# Altium integrated library TI Microcontroller 32-Bit ARM.IntLib: 163 symbols (part 5 of 10)
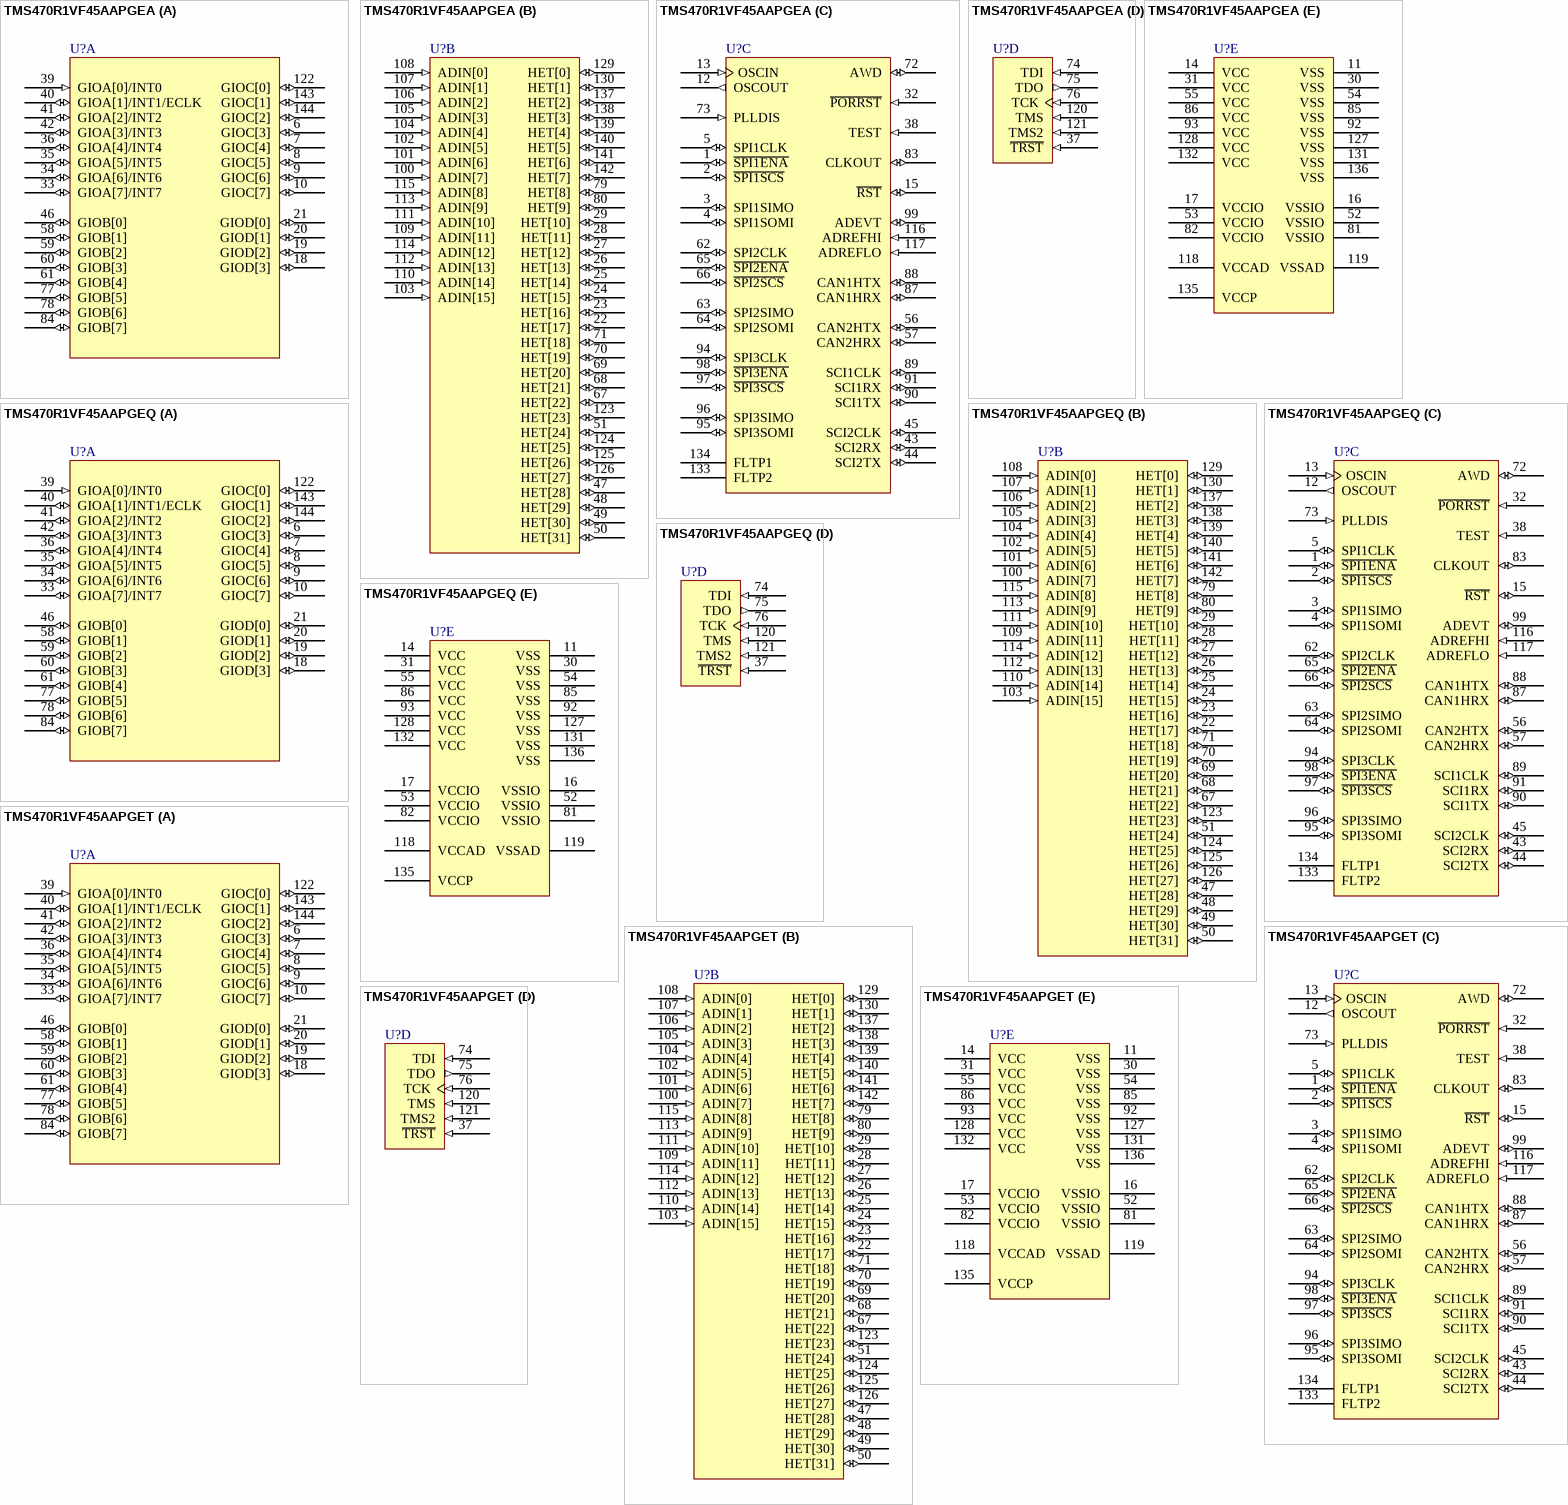
[diagram p56: symbols TMS470R1VF45AAPGEA to TMS470R1VF45AAPGET]

## TMS470R1VF45AAPGEQ
designator U?
ARM7TDMI 16/32-Bit RISC Automotive MCU, 512KB Flash, 32KB RAM, 144-pin LQFP, -40ºC to 125ºC; Published: 30-Mar-2007; DatasheetVersion: Nov-2004; PackageVersion: Dec-1996; PackageReference: PGE144; Publisher: Altium Limited; PackageDescription: 144-Pin Thin Quad Flat Pack 0.5 mm Pitch; ComponentLink1Description: Manufacturer Link; ComponentLink1URL: http://www.ti.com/; ComponentLink2Description: Datasheet; ComponentLink2URL: http://focus.ti.com/lit/ds/symlink/tms470r1vf45aa.pdf
footprint PGE144_N (Thin QFP, 144-Leads, Body 20x20mm, Pitch 0.5mm, IPC Medium Density)
footprint PGE144_L (Thin QFP, 144-Leads, Body 20x20mm, Pitch 0.5mm, IPC High Density)
footprint PGE144_M (Thin QFP, 144-Leads, Body 20x20mm, Pitch 0.5mm, IPC Low Density)
part A pins: 6 GIOC[3] (io), 7 GIOC[4] (io), 8 GIOC[5] (io), 9 GIOC[6] (io), 10 GIOC[7] (io), 18 GIOD[3] (io), 19 GIOD[2] (io), 20 GIOD[1] (io), 21 GIOD[0] (io), 33 GIOA[7]/INT7 (io), 34 GIOA[6]/INT6 (io), 35 GIOA[5]/INT5 (io), 36 GIOA[4]/INT4 (io), 39 GIOA[0]/INT0 (in), 40 GIOA[1]/INT1/ECLK (io), 41 GIOA[2]/INT2 (io), 42 GIOA[3]/INT3 (io), 46 GIOB[0] (io), 58 GIOB[1] (io), 59 GIOB[2] (io), 60 GIOB[3] (io), 61 GIOB[4] (io), 77 GIOB[5] (io), 78 GIOB[6] (io), 84 GIOB[7] (io), 122 GIOC[0] (io), 143 GIOC[1] (io), 144 GIOC[2] (io)
part B pins: 22 HET[17] (io), 23 HET[16] (io), 24 HET[15] (io), 25 HET[14] (io), 26 HET[13] (io), 27 HET[12] (io), 28 HET[11] (io), 29 HET[10] (io), 47 HET[28] (io), 48 HET[29] (io), 49 HET[30] (io), 50 HET[31] (io), 51 HET[24] (io), 67 HET[22] (io), 68 HET[21] (io), 69 HET[20] (io), 70 HET[19] (io), 71 HET[18] (io), 79 HET[8] (io), 80 HET[9] (io), 100 ADIN[7] (in), 101 ADIN[6] (in), 102 ADIN[5] (in), 103 ADIN[15] (in), 104 ADIN[4] (in), 105 ADIN[3] (in), 106 ADIN[2] (in), 107 ADIN[1] (in), 108 ADIN[0] (in), 109 ADIN[11] (in), 110 ADIN[14] (in), 111 ADIN[10] (in), 112 ADIN[13] (in), 113 ADIN[9] (in), 114 ADIN[12] (in), 115 ADIN[8] (in), 123 HET[23] (io), 124 HET[25] (io), 125 HET[26] (io), 126 HET[27] (io), 129 HET[0] (io), 130 HET[1] (io), 137 HET[2] (io), 138 HET[3] (io), 139 HET[4] (io), 140 HET[5] (io), 141 HET[6] (io), 142 HET[7] (io)
part C pins: 1 ~{SPI1ENA} (io), 2 ~{SPI1SCS} (io), 3 SPI1SIMO (io), 4 SPI1SOMI (io), 5 SPI1CLK (io), 12 OSCOUT (out), 13 OSCIN (in), 15 ~{RST} (io), 32 ~{PORRST} (in), 38 TEST (in), 43 SCI2RX (io), 44 SCI2TX (io), 45 SCI2CLK (io), 56 CAN2HTX (io), 57 CAN2HRX (io), 62 SPI2CLK (io), 63 SPI2SIMO (io), 64 SPI2SOMI (io), 65 ~{SPI2ENA} (io), 66 ~{SPI2SCS} (io), 72 AWD (io), 73 PLLDIS (in), 83 CLKOUT (io), 87 CAN1HRX (io), 88 CAN1HTX (io), 89 SCI1CLK (io), 90 SCI1TX (io), 91 SCI1RX (io), 94 SPI3CLK (io), 95 SPI3SOMI (io), 96 SPI3SIMO (io), 97 ~{SPI3SCS} (io), 98 ~{SPI3ENA} (io), 99 ADEVT (io), 116 ADREFHI (in), 117 ADREFLO (in), 133 FLTP2, 134 FLTP1
part D pins: 37 ~{TRST} (in), 74 TDI (in), 75 TDO (out), 76 TCK (in), 120 TMS (in), 121 TMS2 (in)
part E pins: 11 VSS (power), 14 VCC (power), 16 VSSIO (power), 17 VCCIO (power), 30 VSS (power), 31 VCC (power), 52 VSSIO (power), 53 VCCIO (power), 54 VSS (power), 55 VCC (power), 81 VSSIO (power), 82 VCCIO (power), 85 VSS (power), 86 VCC (power), 92 VSS (power), 93 VCC (power), 118 VCCAD (power), 119 VSSAD (power), 127 VSS (power), 128 VCC (power), 131 VSS (power), 132 VCC (power), 135 VCCP (power), 136 VSS (power)

## TMS470R1VF45AAPGET
designator U?
ARM7TDMI 16/32-Bit RISC Automotive MCU, 512KB Flash, 32KB RAM, 144-pin LQFP, -40ºC to 105ºC; Published: 30-Mar-2007; DatasheetVersion: Nov-2004; PackageVersion: Dec-1996; PackageReference: PGE144; Publisher: Altium Limited; PackageDescription: 144-Pin Thin Quad Flat Pack 0.5 mm Pitch; ComponentLink1Description: Manufacturer Link; ComponentLink1URL: http://www.ti.com/; ComponentLink2Description: Datasheet; ComponentLink2URL: http://focus.ti.com/lit/ds/symlink/tms470r1vf45aa.pdf
footprint PGE144_N (Thin QFP, 144-Leads, Body 20x20mm, Pitch 0.5mm, IPC Medium Density)
footprint PGE144_L (Thin QFP, 144-Leads, Body 20x20mm, Pitch 0.5mm, IPC High Density)
footprint PGE144_M (Thin QFP, 144-Leads, Body 20x20mm, Pitch 0.5mm, IPC Low Density)
part A pins: 6 GIOC[3] (io), 7 GIOC[4] (io), 8 GIOC[5] (io), 9 GIOC[6] (io), 10 GIOC[7] (io), 18 GIOD[3] (io), 19 GIOD[2] (io), 20 GIOD[1] (io), 21 GIOD[0] (io), 33 GIOA[7]/INT7 (io), 34 GIOA[6]/INT6 (io), 35 GIOA[5]/INT5 (io), 36 GIOA[4]/INT4 (io), 39 GIOA[0]/INT0 (in), 40 GIOA[1]/INT1/ECLK (io), 41 GIOA[2]/INT2 (io), 42 GIOA[3]/INT3 (io), 46 GIOB[0] (io), 58 GIOB[1] (io), 59 GIOB[2] (io), 60 GIOB[3] (io), 61 GIOB[4] (io), 77 GIOB[5] (io), 78 GIOB[6] (io), 84 GIOB[7] (io), 122 GIOC[0] (io), 143 GIOC[1] (io), 144 GIOC[2] (io)
part B pins: 22 HET[17] (io), 23 HET[16] (io), 24 HET[15] (io), 25 HET[14] (io), 26 HET[13] (io), 27 HET[12] (io), 28 HET[11] (io), 29 HET[10] (io), 47 HET[28] (io), 48 HET[29] (io), 49 HET[30] (io), 50 HET[31] (io), 51 HET[24] (io), 67 HET[22] (io), 68 HET[21] (io), 69 HET[20] (io), 70 HET[19] (io), 71 HET[18] (io), 79 HET[8] (io), 80 HET[9] (io), 100 ADIN[7] (in), 101 ADIN[6] (in), 102 ADIN[5] (in), 103 ADIN[15] (in), 104 ADIN[4] (in), 105 ADIN[3] (in), 106 ADIN[2] (in), 107 ADIN[1] (in), 108 ADIN[0] (in), 109 ADIN[11] (in), 110 ADIN[14] (in), 111 ADIN[10] (in), 112 ADIN[13] (in), 113 ADIN[9] (in), 114 ADIN[12] (in), 115 ADIN[8] (in), 123 HET[23] (io), 124 HET[25] (io), 125 HET[26] (io), 126 HET[27] (io), 129 HET[0] (io), 130 HET[1] (io), 137 HET[2] (io), 138 HET[3] (io), 139 HET[4] (io), 140 HET[5] (io), 141 HET[6] (io), 142 HET[7] (io)
part C pins: 1 ~{SPI1ENA} (io), 2 ~{SPI1SCS} (io), 3 SPI1SIMO (io), 4 SPI1SOMI (io), 5 SPI1CLK (io), 12 OSCOUT (out), 13 OSCIN (in), 15 ~{RST} (io), 32 ~{PORRST} (in), 38 TEST (in), 43 SCI2RX (io), 44 SCI2TX (io), 45 SCI2CLK (io), 56 CAN2HTX (io), 57 CAN2HRX (io), 62 SPI2CLK (io), 63 SPI2SIMO (io), 64 SPI2SOMI (io), 65 ~{SPI2ENA} (io), 66 ~{SPI2SCS} (io), 72 AWD (io), 73 PLLDIS (in), 83 CLKOUT (io), 87 CAN1HRX (io), 88 CAN1HTX (io), 89 SCI1CLK (io), 90 SCI1TX (io), 91 SCI1RX (io), 94 SPI3CLK (io), 95 SPI3SOMI (io), 96 SPI3SIMO (io), 97 ~{SPI3SCS} (io), 98 ~{SPI3ENA} (io), 99 ADEVT (io), 116 ADREFHI (in), 117 ADREFLO (in), 133 FLTP2, 134 FLTP1
part D pins: 37 ~{TRST} (in), 74 TDI (in), 75 TDO (out), 76 TCK (in), 120 TMS (in), 121 TMS2 (in)
part E pins: 11 VSS (power), 14 VCC (power), 16 VSSIO (power), 17 VCCIO (power), 30 VSS (power), 31 VCC (power), 52 VSSIO (power), 53 VCCIO (power), 54 VSS (power), 55 VCC (power), 81 VSSIO (power), 82 VCCIO (power), 85 VSS (power), 86 VCC (power), 92 VSS (power), 93 VCC (power), 118 VCCAD (power), 119 VSSAD (power), 127 VSS (power), 128 VCC (power), 131 VSS (power), 132 VCC (power), 135 VCCP (power), 136 VSS (power)

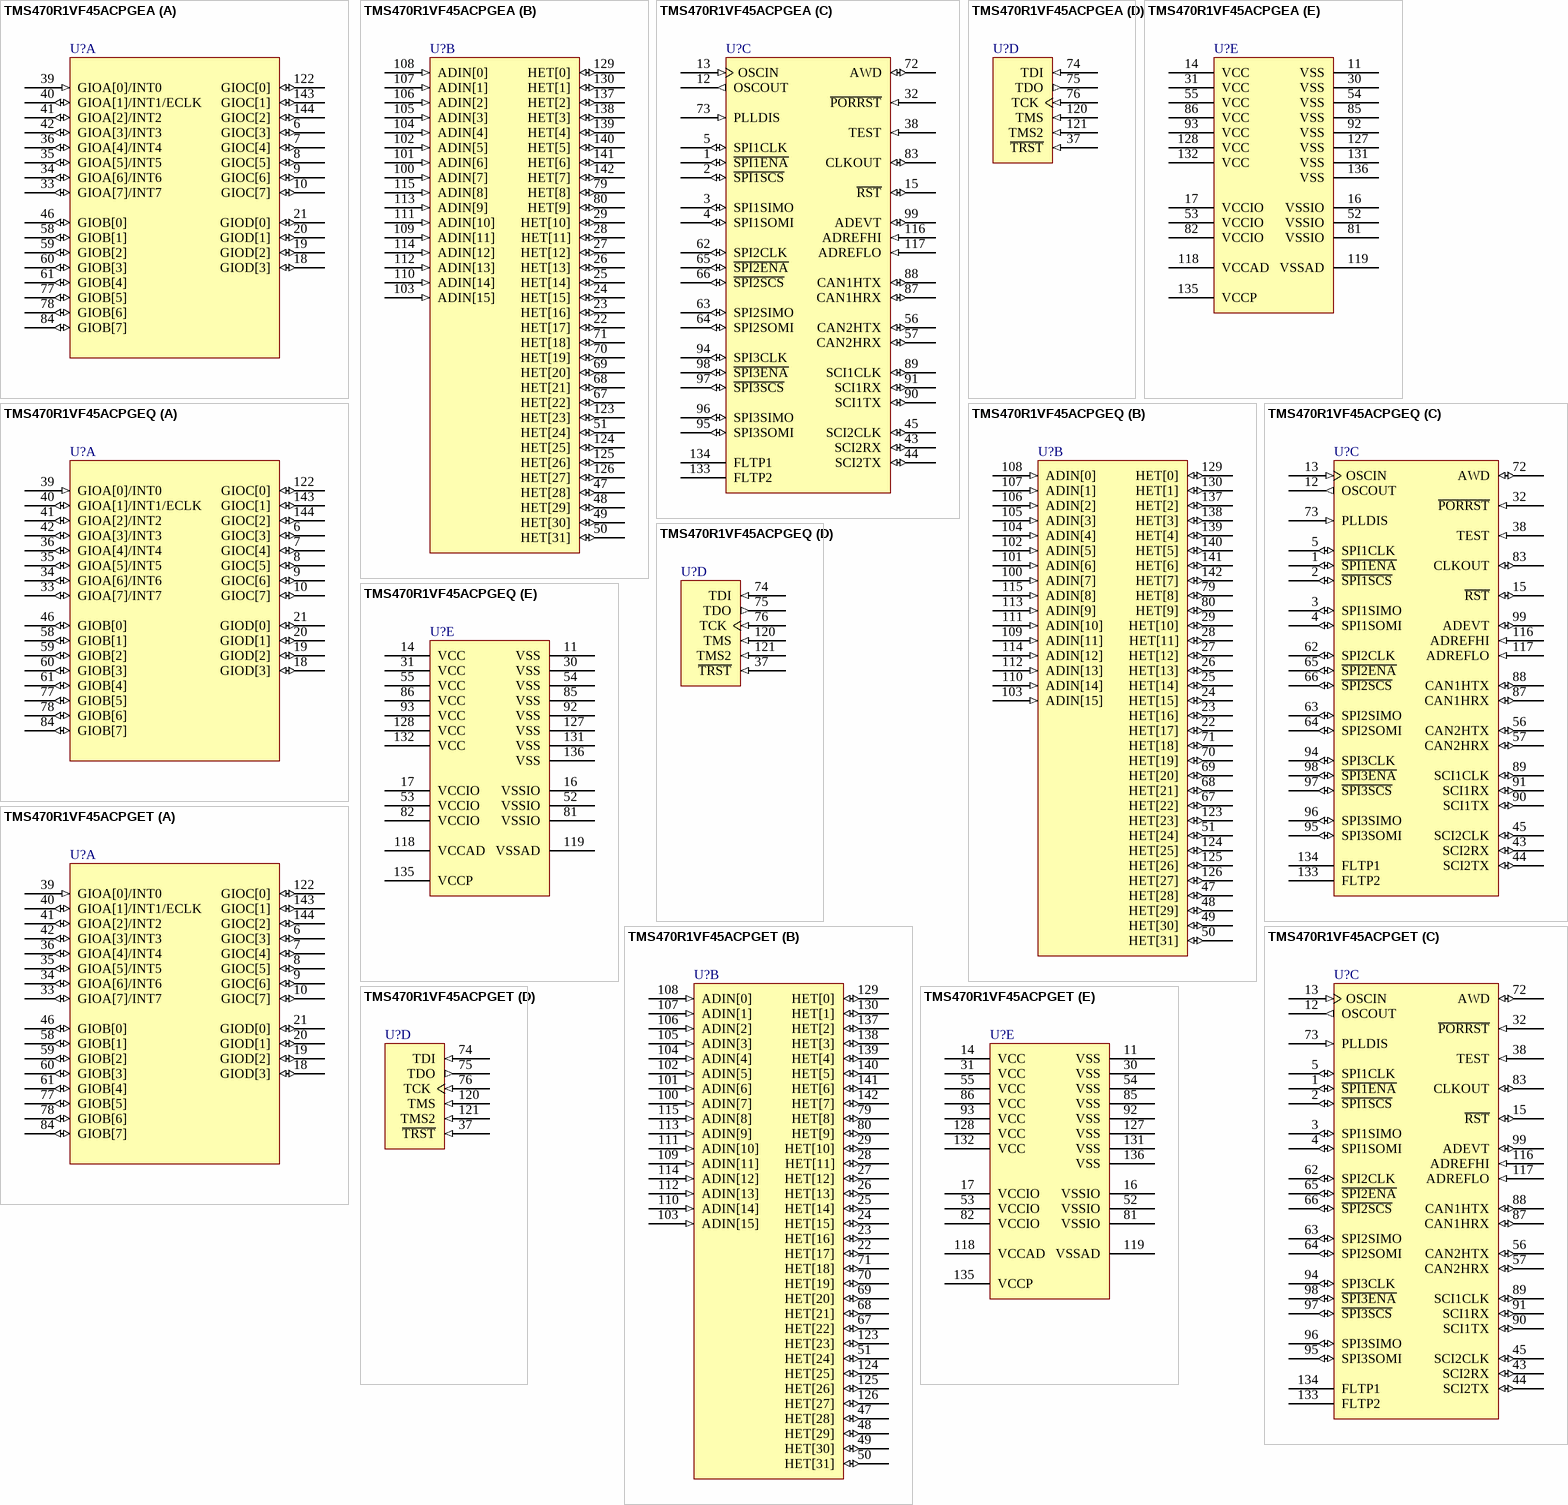
[diagram p22: symbols TMS470R1VF45ACPGEA to TMS470R1VF45ACPGET]

## TMS470R1VF45ACPGEA
designator U?
ARM7TDMI 16/32-Bit RISC Automotive MCU, 512KB Flash, 32KB RAM, 144-pin LQFP, -40ºC to 85ºC; Published: 30-Mar-2007; DatasheetVersion: Nov-2004; PackageVersion: Dec-1996; PackageReference: PGE144; Publisher: Altium Limited; PackageDescription: 144-Pin Thin Quad Flat Pack 0.5 mm Pitch; ComponentLink1Description: Manufacturer Link; ComponentLink1URL: http://www.ti.com/; ComponentLink2Description: Datasheet; ComponentLink2URL: http://focus.ti.com/lit/ds/symlink/tms470r1vf45aa.pdf
footprint PGE144_N (Thin QFP, 144-Leads, Body 20x20mm, Pitch 0.5mm, IPC Medium Density)
footprint PGE144_L (Thin QFP, 144-Leads, Body 20x20mm, Pitch 0.5mm, IPC High Density)
footprint PGE144_M (Thin QFP, 144-Leads, Body 20x20mm, Pitch 0.5mm, IPC Low Density)
part A pins: 6 GIOC[3] (io), 7 GIOC[4] (io), 8 GIOC[5] (io), 9 GIOC[6] (io), 10 GIOC[7] (io), 18 GIOD[3] (io), 19 GIOD[2] (io), 20 GIOD[1] (io), 21 GIOD[0] (io), 33 GIOA[7]/INT7 (io), 34 GIOA[6]/INT6 (io), 35 GIOA[5]/INT5 (io), 36 GIOA[4]/INT4 (io), 39 GIOA[0]/INT0 (in), 40 GIOA[1]/INT1/ECLK (io), 41 GIOA[2]/INT2 (io), 42 GIOA[3]/INT3 (io), 46 GIOB[0] (io), 58 GIOB[1] (io), 59 GIOB[2] (io), 60 GIOB[3] (io), 61 GIOB[4] (io), 77 GIOB[5] (io), 78 GIOB[6] (io), 84 GIOB[7] (io), 122 GIOC[0] (io), 143 GIOC[1] (io), 144 GIOC[2] (io)
part B pins: 22 HET[17] (io), 23 HET[16] (io), 24 HET[15] (io), 25 HET[14] (io), 26 HET[13] (io), 27 HET[12] (io), 28 HET[11] (io), 29 HET[10] (io), 47 HET[28] (io), 48 HET[29] (io), 49 HET[30] (io), 50 HET[31] (io), 51 HET[24] (io), 67 HET[22] (io), 68 HET[21] (io), 69 HET[20] (io), 70 HET[19] (io), 71 HET[18] (io), 79 HET[8] (io), 80 HET[9] (io), 100 ADIN[7] (in), 101 ADIN[6] (in), 102 ADIN[5] (in), 103 ADIN[15] (in), 104 ADIN[4] (in), 105 ADIN[3] (in), 106 ADIN[2] (in), 107 ADIN[1] (in), 108 ADIN[0] (in), 109 ADIN[11] (in), 110 ADIN[14] (in), 111 ADIN[10] (in), 112 ADIN[13] (in), 113 ADIN[9] (in), 114 ADIN[12] (in), 115 ADIN[8] (in), 123 HET[23] (io), 124 HET[25] (io), 125 HET[26] (io), 126 HET[27] (io), 129 HET[0] (io), 130 HET[1] (io), 137 HET[2] (io), 138 HET[3] (io), 139 HET[4] (io), 140 HET[5] (io), 141 HET[6] (io), 142 HET[7] (io)
part C pins: 1 ~{SPI1ENA} (io), 2 ~{SPI1SCS} (io), 3 SPI1SIMO (io), 4 SPI1SOMI (io), 5 SPI1CLK (io), 12 OSCOUT (out), 13 OSCIN (in), 15 ~{RST} (io), 32 ~{PORRST} (in), 38 TEST (in), 43 SCI2RX (io), 44 SCI2TX (io), 45 SCI2CLK (io), 56 CAN2HTX (io), 57 CAN2HRX (io), 62 SPI2CLK (io), 63 SPI2SIMO (io), 64 SPI2SOMI (io), 65 ~{SPI2ENA} (io), 66 ~{SPI2SCS} (io), 72 AWD (io), 73 PLLDIS (in), 83 CLKOUT (io), 87 CAN1HRX (io), 88 CAN1HTX (io), 89 SCI1CLK (io), 90 SCI1TX (io), 91 SCI1RX (io), 94 SPI3CLK (io), 95 SPI3SOMI (io), 96 SPI3SIMO (io), 97 ~{SPI3SCS} (io), 98 ~{SPI3ENA} (io), 99 ADEVT (io), 116 ADREFHI (in), 117 ADREFLO (in), 133 FLTP2, 134 FLTP1
part D pins: 37 ~{TRST} (in), 74 TDI (in), 75 TDO (out), 76 TCK (in), 120 TMS (in), 121 TMS2 (in)
part E pins: 11 VSS (power), 14 VCC (power), 16 VSSIO (power), 17 VCCIO (power), 30 VSS (power), 31 VCC (power), 52 VSSIO (power), 53 VCCIO (power), 54 VSS (power), 55 VCC (power), 81 VSSIO (power), 82 VCCIO (power), 85 VSS (power), 86 VCC (power), 92 VSS (power), 93 VCC (power), 118 VCCAD (power), 119 VSSAD (power), 127 VSS (power), 128 VCC (power), 131 VSS (power), 132 VCC (power), 135 VCCP (power), 136 VSS (power)

## TMS470R1VF45ACPGEQ
designator U?
ARM7TDMI 16/32-Bit RISC Automotive MCU, 512KB Flash, 32KB RAM, 144-pin LQFP, -40ºC to 125ºC; Published: 30-Mar-2007; DatasheetVersion: Nov-2004; PackageVersion: Dec-1996; PackageReference: PGE144; Publisher: Altium Limited; PackageDescription: 144-Pin Thin Quad Flat Pack 0.5 mm Pitch; ComponentLink1Description: Manufacturer Link; ComponentLink1URL: http://www.ti.com/; ComponentLink2Description: Datasheet; ComponentLink2URL: http://focus.ti.com/lit/ds/symlink/tms470r1vf45aa.pdf
footprint PGE144_N (Thin QFP, 144-Leads, Body 20x20mm, Pitch 0.5mm, IPC Medium Density)
footprint PGE144_L (Thin QFP, 144-Leads, Body 20x20mm, Pitch 0.5mm, IPC High Density)
footprint PGE144_M (Thin QFP, 144-Leads, Body 20x20mm, Pitch 0.5mm, IPC Low Density)
part A pins: 6 GIOC[3] (io), 7 GIOC[4] (io), 8 GIOC[5] (io), 9 GIOC[6] (io), 10 GIOC[7] (io), 18 GIOD[3] (io), 19 GIOD[2] (io), 20 GIOD[1] (io), 21 GIOD[0] (io), 33 GIOA[7]/INT7 (io), 34 GIOA[6]/INT6 (io), 35 GIOA[5]/INT5 (io), 36 GIOA[4]/INT4 (io), 39 GIOA[0]/INT0 (in), 40 GIOA[1]/INT1/ECLK (io), 41 GIOA[2]/INT2 (io), 42 GIOA[3]/INT3 (io), 46 GIOB[0] (io), 58 GIOB[1] (io), 59 GIOB[2] (io), 60 GIOB[3] (io), 61 GIOB[4] (io), 77 GIOB[5] (io), 78 GIOB[6] (io), 84 GIOB[7] (io), 122 GIOC[0] (io), 143 GIOC[1] (io), 144 GIOC[2] (io)
part B pins: 22 HET[17] (io), 23 HET[16] (io), 24 HET[15] (io), 25 HET[14] (io), 26 HET[13] (io), 27 HET[12] (io), 28 HET[11] (io), 29 HET[10] (io), 47 HET[28] (io), 48 HET[29] (io), 49 HET[30] (io), 50 HET[31] (io), 51 HET[24] (io), 67 HET[22] (io), 68 HET[21] (io), 69 HET[20] (io), 70 HET[19] (io), 71 HET[18] (io), 79 HET[8] (io), 80 HET[9] (io), 100 ADIN[7] (in), 101 ADIN[6] (in), 102 ADIN[5] (in), 103 ADIN[15] (in), 104 ADIN[4] (in), 105 ADIN[3] (in), 106 ADIN[2] (in), 107 ADIN[1] (in), 108 ADIN[0] (in), 109 ADIN[11] (in), 110 ADIN[14] (in), 111 ADIN[10] (in), 112 ADIN[13] (in), 113 ADIN[9] (in), 114 ADIN[12] (in), 115 ADIN[8] (in), 123 HET[23] (io), 124 HET[25] (io), 125 HET[26] (io), 126 HET[27] (io), 129 HET[0] (io), 130 HET[1] (io), 137 HET[2] (io), 138 HET[3] (io), 139 HET[4] (io), 140 HET[5] (io), 141 HET[6] (io), 142 HET[7] (io)
part C pins: 1 ~{SPI1ENA} (io), 2 ~{SPI1SCS} (io), 3 SPI1SIMO (io), 4 SPI1SOMI (io), 5 SPI1CLK (io), 12 OSCOUT (out), 13 OSCIN (in), 15 ~{RST} (io), 32 ~{PORRST} (in), 38 TEST (in), 43 SCI2RX (io), 44 SCI2TX (io), 45 SCI2CLK (io), 56 CAN2HTX (io), 57 CAN2HRX (io), 62 SPI2CLK (io), 63 SPI2SIMO (io), 64 SPI2SOMI (io), 65 ~{SPI2ENA} (io), 66 ~{SPI2SCS} (io), 72 AWD (io), 73 PLLDIS (in), 83 CLKOUT (io), 87 CAN1HRX (io), 88 CAN1HTX (io), 89 SCI1CLK (io), 90 SCI1TX (io), 91 SCI1RX (io), 94 SPI3CLK (io), 95 SPI3SOMI (io), 96 SPI3SIMO (io), 97 ~{SPI3SCS} (io), 98 ~{SPI3ENA} (io), 99 ADEVT (io), 116 ADREFHI (in), 117 ADREFLO (in), 133 FLTP2, 134 FLTP1
part D pins: 37 ~{TRST} (in), 74 TDI (in), 75 TDO (out), 76 TCK (in), 120 TMS (in), 121 TMS2 (in)
part E pins: 11 VSS (power), 14 VCC (power), 16 VSSIO (power), 17 VCCIO (power), 30 VSS (power), 31 VCC (power), 52 VSSIO (power), 53 VCCIO (power), 54 VSS (power), 55 VCC (power), 81 VSSIO (power), 82 VCCIO (power), 85 VSS (power), 86 VCC (power), 92 VSS (power), 93 VCC (power), 118 VCCAD (power), 119 VSSAD (power), 127 VSS (power), 128 VCC (power), 131 VSS (power), 132 VCC (power), 135 VCCP (power), 136 VSS (power)

## TMS470R1VF45ACPGET
designator U?
ARM7TDMI 16/32-Bit RISC Automotive MCU, 512KB Flash, 32KB RAM, 144-pin LQFP, -40ºC to 105ºC; Published: 30-Mar-2007; DatasheetVersion: Nov-2004; PackageVersion: Dec-1996; PackageReference: PGE144; Publisher: Altium Limited; PackageDescription: 144-Pin Thin Quad Flat Pack 0.5 mm Pitch; ComponentLink1Description: Manufacturer Link; ComponentLink1URL: http://www.ti.com/; ComponentLink2Description: Datasheet; ComponentLink2URL: http://focus.ti.com/lit/ds/symlink/tms470r1vf45aa.pdf
footprint PGE144_N (Thin QFP, 144-Leads, Body 20x20mm, Pitch 0.5mm, IPC Medium Density)
footprint PGE144_L (Thin QFP, 144-Leads, Body 20x20mm, Pitch 0.5mm, IPC High Density)
footprint PGE144_M (Thin QFP, 144-Leads, Body 20x20mm, Pitch 0.5mm, IPC Low Density)
part A pins: 6 GIOC[3] (io), 7 GIOC[4] (io), 8 GIOC[5] (io), 9 GIOC[6] (io), 10 GIOC[7] (io), 18 GIOD[3] (io), 19 GIOD[2] (io), 20 GIOD[1] (io), 21 GIOD[0] (io), 33 GIOA[7]/INT7 (io), 34 GIOA[6]/INT6 (io), 35 GIOA[5]/INT5 (io), 36 GIOA[4]/INT4 (io), 39 GIOA[0]/INT0 (in), 40 GIOA[1]/INT1/ECLK (io), 41 GIOA[2]/INT2 (io), 42 GIOA[3]/INT3 (io), 46 GIOB[0] (io), 58 GIOB[1] (io), 59 GIOB[2] (io), 60 GIOB[3] (io), 61 GIOB[4] (io), 77 GIOB[5] (io), 78 GIOB[6] (io), 84 GIOB[7] (io), 122 GIOC[0] (io), 143 GIOC[1] (io), 144 GIOC[2] (io)
part B pins: 22 HET[17] (io), 23 HET[16] (io), 24 HET[15] (io), 25 HET[14] (io), 26 HET[13] (io), 27 HET[12] (io), 28 HET[11] (io), 29 HET[10] (io), 47 HET[28] (io), 48 HET[29] (io), 49 HET[30] (io), 50 HET[31] (io), 51 HET[24] (io), 67 HET[22] (io), 68 HET[21] (io), 69 HET[20] (io), 70 HET[19] (io), 71 HET[18] (io), 79 HET[8] (io), 80 HET[9] (io), 100 ADIN[7] (in), 101 ADIN[6] (in), 102 ADIN[5] (in), 103 ADIN[15] (in), 104 ADIN[4] (in), 105 ADIN[3] (in), 106 ADIN[2] (in), 107 ADIN[1] (in), 108 ADIN[0] (in), 109 ADIN[11] (in), 110 ADIN[14] (in), 111 ADIN[10] (in), 112 ADIN[13] (in), 113 ADIN[9] (in), 114 ADIN[12] (in), 115 ADIN[8] (in), 123 HET[23] (io), 124 HET[25] (io), 125 HET[26] (io), 126 HET[27] (io), 129 HET[0] (io), 130 HET[1] (io), 137 HET[2] (io), 138 HET[3] (io), 139 HET[4] (io), 140 HET[5] (io), 141 HET[6] (io), 142 HET[7] (io)
part C pins: 1 ~{SPI1ENA} (io), 2 ~{SPI1SCS} (io), 3 SPI1SIMO (io), 4 SPI1SOMI (io), 5 SPI1CLK (io), 12 OSCOUT (out), 13 OSCIN (in), 15 ~{RST} (io), 32 ~{PORRST} (in), 38 TEST (in), 43 SCI2RX (io), 44 SCI2TX (io), 45 SCI2CLK (io), 56 CAN2HTX (io), 57 CAN2HRX (io), 62 SPI2CLK (io), 63 SPI2SIMO (io), 64 SPI2SOMI (io), 65 ~{SPI2ENA} (io), 66 ~{SPI2SCS} (io), 72 AWD (io), 73 PLLDIS (in), 83 CLKOUT (io), 87 CAN1HRX (io), 88 CAN1HTX (io), 89 SCI1CLK (io), 90 SCI1TX (io), 91 SCI1RX (io), 94 SPI3CLK (io), 95 SPI3SOMI (io), 96 SPI3SIMO (io), 97 ~{SPI3SCS} (io), 98 ~{SPI3ENA} (io), 99 ADEVT (io), 116 ADREFHI (in), 117 ADREFLO (in), 133 FLTP2, 134 FLTP1
part D pins: 37 ~{TRST} (in), 74 TDI (in), 75 TDO (out), 76 TCK (in), 120 TMS (in), 121 TMS2 (in)
part E pins: 11 VSS (power), 14 VCC (power), 16 VSSIO (power), 17 VCCIO (power), 30 VSS (power), 31 VCC (power), 52 VSSIO (power), 53 VCCIO (power), 54 VSS (power), 55 VCC (power), 81 VSSIO (power), 82 VCCIO (power), 85 VSS (power), 86 VCC (power), 92 VSS (power), 93 VCC (power), 118 VCCAD (power), 119 VSSAD (power), 127 VSS (power), 128 VCC (power), 131 VSS (power), 132 VCC (power), 135 VCCP (power), 136 VSS (power)

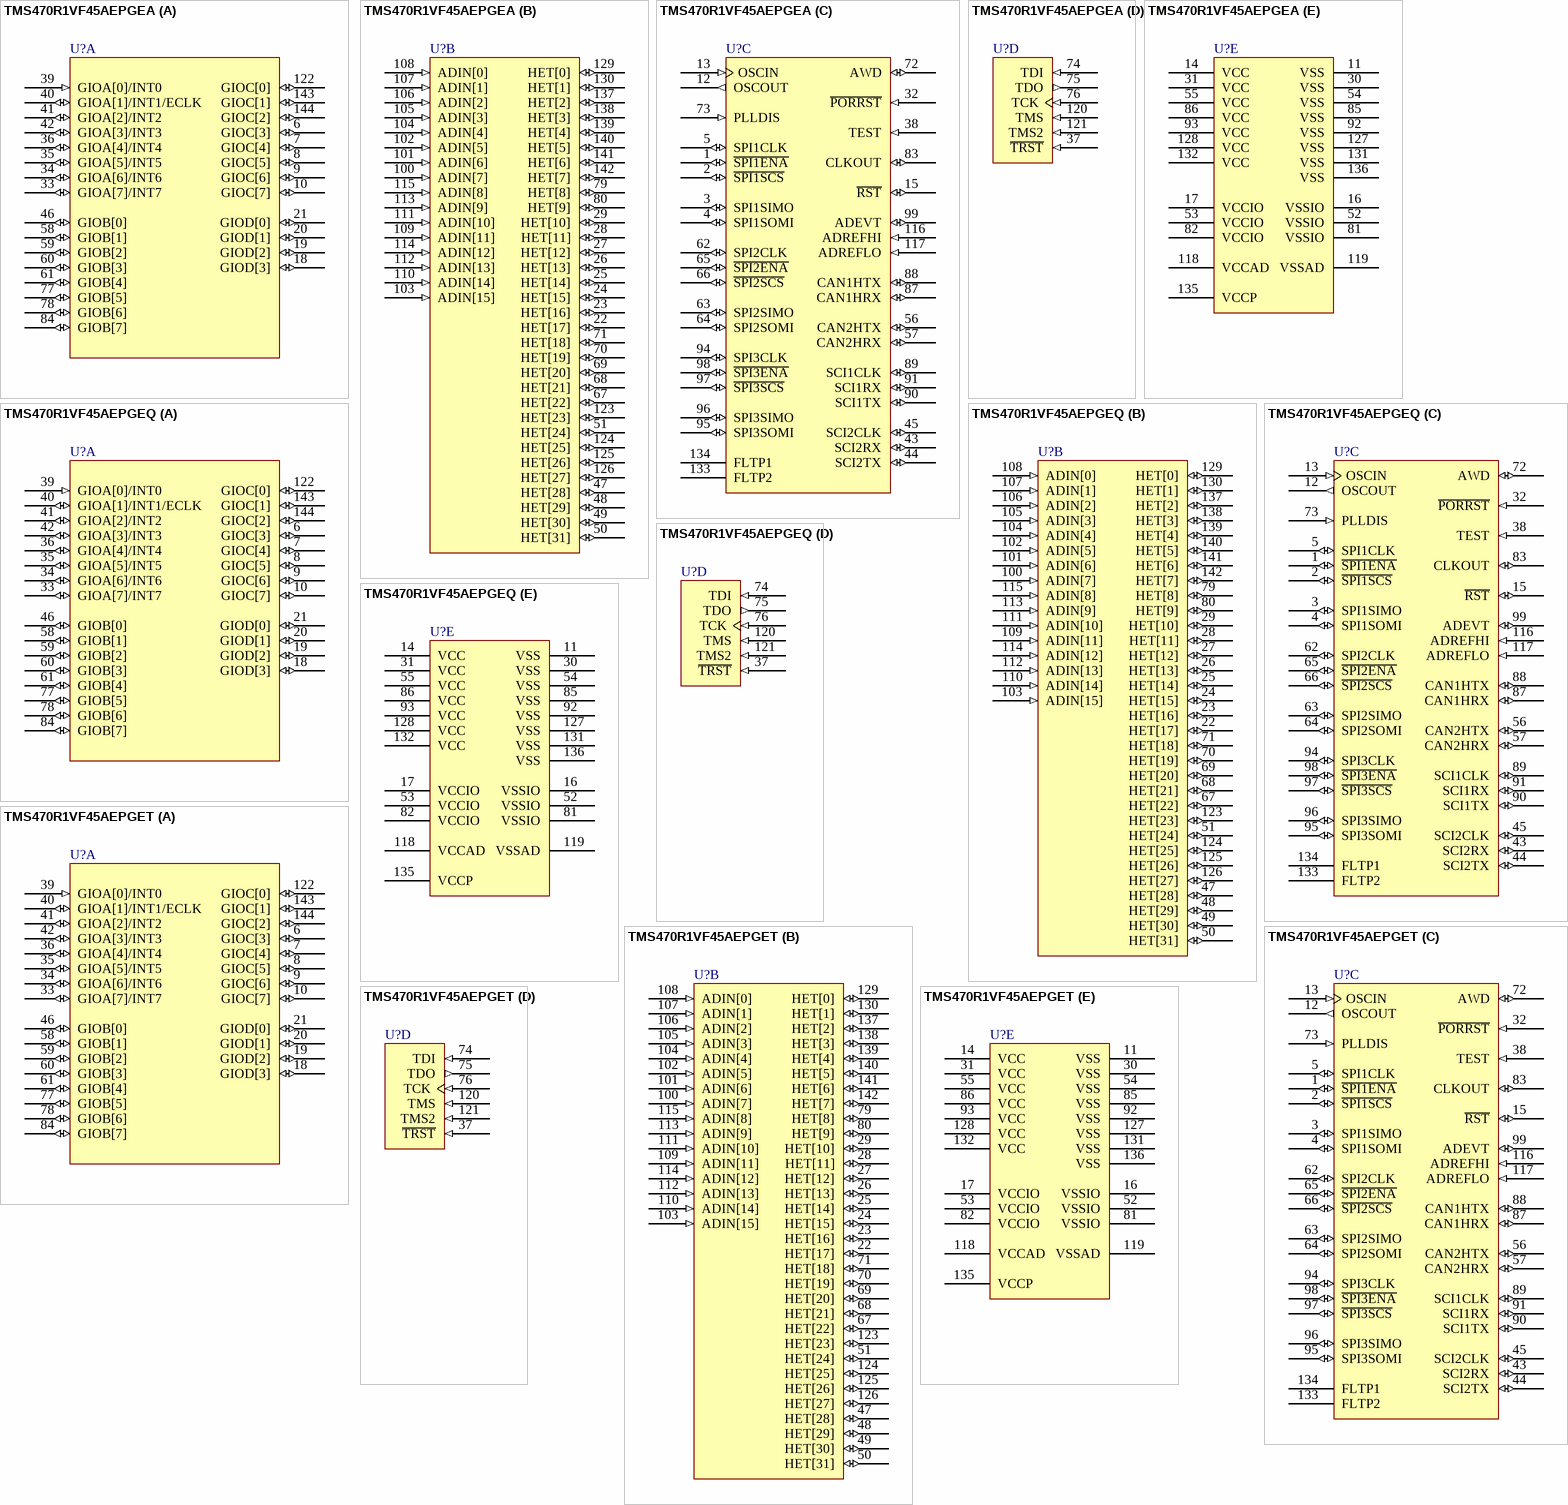
[diagram p23: symbols TMS470R1VF45AEPGEA to TMS470R1VF45AEPGET]

## TMS470R1VF45AEPGEA
designator U?
ARM7TDMI 16/32-Bit RISC Automotive MCU, 512KB Flash, 32KB RAM, 144-pin LQFP, -40ºC to 85ºC; Published: 30-Mar-2007; DatasheetVersion: Nov-2004; PackageVersion: Dec-1996; PackageReference: PGE144; Publisher: Altium Limited; PackageDescription: 144-Pin Thin Quad Flat Pack 0.5 mm Pitch; ComponentLink1Description: Manufacturer Link; ComponentLink1URL: http://www.ti.com/; ComponentLink2Description: Datasheet; ComponentLink2URL: http://focus.ti.com/lit/ds/symlink/tms470r1vf45aa.pdf
footprint PGE144_N (Thin QFP, 144-Leads, Body 20x20mm, Pitch 0.5mm, IPC Medium Density)
footprint PGE144_L (Thin QFP, 144-Leads, Body 20x20mm, Pitch 0.5mm, IPC High Density)
footprint PGE144_M (Thin QFP, 144-Leads, Body 20x20mm, Pitch 0.5mm, IPC Low Density)
part A pins: 6 GIOC[3] (io), 7 GIOC[4] (io), 8 GIOC[5] (io), 9 GIOC[6] (io), 10 GIOC[7] (io), 18 GIOD[3] (io), 19 GIOD[2] (io), 20 GIOD[1] (io), 21 GIOD[0] (io), 33 GIOA[7]/INT7 (io), 34 GIOA[6]/INT6 (io), 35 GIOA[5]/INT5 (io), 36 GIOA[4]/INT4 (io), 39 GIOA[0]/INT0 (in), 40 GIOA[1]/INT1/ECLK (io), 41 GIOA[2]/INT2 (io), 42 GIOA[3]/INT3 (io), 46 GIOB[0] (io), 58 GIOB[1] (io), 59 GIOB[2] (io), 60 GIOB[3] (io), 61 GIOB[4] (io), 77 GIOB[5] (io), 78 GIOB[6] (io), 84 GIOB[7] (io), 122 GIOC[0] (io), 143 GIOC[1] (io), 144 GIOC[2] (io)
part B pins: 22 HET[17] (io), 23 HET[16] (io), 24 HET[15] (io), 25 HET[14] (io), 26 HET[13] (io), 27 HET[12] (io), 28 HET[11] (io), 29 HET[10] (io), 47 HET[28] (io), 48 HET[29] (io), 49 HET[30] (io), 50 HET[31] (io), 51 HET[24] (io), 67 HET[22] (io), 68 HET[21] (io), 69 HET[20] (io), 70 HET[19] (io), 71 HET[18] (io), 79 HET[8] (io), 80 HET[9] (io), 100 ADIN[7] (in), 101 ADIN[6] (in), 102 ADIN[5] (in), 103 ADIN[15] (in), 104 ADIN[4] (in), 105 ADIN[3] (in), 106 ADIN[2] (in), 107 ADIN[1] (in), 108 ADIN[0] (in), 109 ADIN[11] (in), 110 ADIN[14] (in), 111 ADIN[10] (in), 112 ADIN[13] (in), 113 ADIN[9] (in), 114 ADIN[12] (in), 115 ADIN[8] (in), 123 HET[23] (io), 124 HET[25] (io), 125 HET[26] (io), 126 HET[27] (io), 129 HET[0] (io), 130 HET[1] (io), 137 HET[2] (io), 138 HET[3] (io), 139 HET[4] (io), 140 HET[5] (io), 141 HET[6] (io), 142 HET[7] (io)
part C pins: 1 ~{SPI1ENA} (io), 2 ~{SPI1SCS} (io), 3 SPI1SIMO (io), 4 SPI1SOMI (io), 5 SPI1CLK (io), 12 OSCOUT (out), 13 OSCIN (in), 15 ~{RST} (io), 32 ~{PORRST} (in), 38 TEST (in), 43 SCI2RX (io), 44 SCI2TX (io), 45 SCI2CLK (io), 56 CAN2HTX (io), 57 CAN2HRX (io), 62 SPI2CLK (io), 63 SPI2SIMO (io), 64 SPI2SOMI (io), 65 ~{SPI2ENA} (io), 66 ~{SPI2SCS} (io), 72 AWD (io), 73 PLLDIS (in), 83 CLKOUT (io), 87 CAN1HRX (io), 88 CAN1HTX (io), 89 SCI1CLK (io), 90 SCI1TX (io), 91 SCI1RX (io), 94 SPI3CLK (io), 95 SPI3SOMI (io), 96 SPI3SIMO (io), 97 ~{SPI3SCS} (io), 98 ~{SPI3ENA} (io), 99 ADEVT (io), 116 ADREFHI (in), 117 ADREFLO (in), 133 FLTP2, 134 FLTP1
part D pins: 37 ~{TRST} (in), 74 TDI (in), 75 TDO (out), 76 TCK (in), 120 TMS (in), 121 TMS2 (in)
part E pins: 11 VSS (power), 14 VCC (power), 16 VSSIO (power), 17 VCCIO (power), 30 VSS (power), 31 VCC (power), 52 VSSIO (power), 53 VCCIO (power), 54 VSS (power), 55 VCC (power), 81 VSSIO (power), 82 VCCIO (power), 85 VSS (power), 86 VCC (power), 92 VSS (power), 93 VCC (power), 118 VCCAD (power), 119 VSSAD (power), 127 VSS (power), 128 VCC (power), 131 VSS (power), 132 VCC (power), 135 VCCP (power), 136 VSS (power)

## TMS470R1VF45AEPGEQ
designator U?
ARM7TDMI 16/32-Bit RISC Automotive MCU, 512KB Flash, 32KB RAM, 144-pin LQFP, -40ºC to 125ºC; Published: 30-Mar-2007; DatasheetVersion: Nov-2004; PackageVersion: Dec-1996; PackageReference: PGE144; Publisher: Altium Limited; PackageDescription: 144-Pin Thin Quad Flat Pack 0.5 mm Pitch; ComponentLink1Description: Manufacturer Link; ComponentLink1URL: http://www.ti.com/; ComponentLink2Description: Datasheet; ComponentLink2URL: http://focus.ti.com/lit/ds/symlink/tms470r1vf45aa.pdf
footprint PGE144_N (Thin QFP, 144-Leads, Body 20x20mm, Pitch 0.5mm, IPC Medium Density)
footprint PGE144_L (Thin QFP, 144-Leads, Body 20x20mm, Pitch 0.5mm, IPC High Density)
footprint PGE144_M (Thin QFP, 144-Leads, Body 20x20mm, Pitch 0.5mm, IPC Low Density)
part A pins: 6 GIOC[3] (io), 7 GIOC[4] (io), 8 GIOC[5] (io), 9 GIOC[6] (io), 10 GIOC[7] (io), 18 GIOD[3] (io), 19 GIOD[2] (io), 20 GIOD[1] (io), 21 GIOD[0] (io), 33 GIOA[7]/INT7 (io), 34 GIOA[6]/INT6 (io), 35 GIOA[5]/INT5 (io), 36 GIOA[4]/INT4 (io), 39 GIOA[0]/INT0 (in), 40 GIOA[1]/INT1/ECLK (io), 41 GIOA[2]/INT2 (io), 42 GIOA[3]/INT3 (io), 46 GIOB[0] (io), 58 GIOB[1] (io), 59 GIOB[2] (io), 60 GIOB[3] (io), 61 GIOB[4] (io), 77 GIOB[5] (io), 78 GIOB[6] (io), 84 GIOB[7] (io), 122 GIOC[0] (io), 143 GIOC[1] (io), 144 GIOC[2] (io)
part B pins: 22 HET[17] (io), 23 HET[16] (io), 24 HET[15] (io), 25 HET[14] (io), 26 HET[13] (io), 27 HET[12] (io), 28 HET[11] (io), 29 HET[10] (io), 47 HET[28] (io), 48 HET[29] (io), 49 HET[30] (io), 50 HET[31] (io), 51 HET[24] (io), 67 HET[22] (io), 68 HET[21] (io), 69 HET[20] (io), 70 HET[19] (io), 71 HET[18] (io), 79 HET[8] (io), 80 HET[9] (io), 100 ADIN[7] (in), 101 ADIN[6] (in), 102 ADIN[5] (in), 103 ADIN[15] (in), 104 ADIN[4] (in), 105 ADIN[3] (in), 106 ADIN[2] (in), 107 ADIN[1] (in), 108 ADIN[0] (in), 109 ADIN[11] (in), 110 ADIN[14] (in), 111 ADIN[10] (in), 112 ADIN[13] (in), 113 ADIN[9] (in), 114 ADIN[12] (in), 115 ADIN[8] (in), 123 HET[23] (io), 124 HET[25] (io), 125 HET[26] (io), 126 HET[27] (io), 129 HET[0] (io), 130 HET[1] (io), 137 HET[2] (io), 138 HET[3] (io), 139 HET[4] (io), 140 HET[5] (io), 141 HET[6] (io), 142 HET[7] (io)
part C pins: 1 ~{SPI1ENA} (io), 2 ~{SPI1SCS} (io), 3 SPI1SIMO (io), 4 SPI1SOMI (io), 5 SPI1CLK (io), 12 OSCOUT (out), 13 OSCIN (in), 15 ~{RST} (io), 32 ~{PORRST} (in), 38 TEST (in), 43 SCI2RX (io), 44 SCI2TX (io), 45 SCI2CLK (io), 56 CAN2HTX (io), 57 CAN2HRX (io), 62 SPI2CLK (io), 63 SPI2SIMO (io), 64 SPI2SOMI (io), 65 ~{SPI2ENA} (io), 66 ~{SPI2SCS} (io), 72 AWD (io), 73 PLLDIS (in), 83 CLKOUT (io), 87 CAN1HRX (io), 88 CAN1HTX (io), 89 SCI1CLK (io), 90 SCI1TX (io), 91 SCI1RX (io), 94 SPI3CLK (io), 95 SPI3SOMI (io), 96 SPI3SIMO (io), 97 ~{SPI3SCS} (io), 98 ~{SPI3ENA} (io), 99 ADEVT (io), 116 ADREFHI (in), 117 ADREFLO (in), 133 FLTP2, 134 FLTP1
part D pins: 37 ~{TRST} (in), 74 TDI (in), 75 TDO (out), 76 TCK (in), 120 TMS (in), 121 TMS2 (in)
part E pins: 11 VSS (power), 14 VCC (power), 16 VSSIO (power), 17 VCCIO (power), 30 VSS (power), 31 VCC (power), 52 VSSIO (power), 53 VCCIO (power), 54 VSS (power), 55 VCC (power), 81 VSSIO (power), 82 VCCIO (power), 85 VSS (power), 86 VCC (power), 92 VSS (power), 93 VCC (power), 118 VCCAD (power), 119 VSSAD (power), 127 VSS (power), 128 VCC (power), 131 VSS (power), 132 VCC (power), 135 VCCP (power), 136 VSS (power)

## TMS470R1VF45AEPGET
designator U?
ARM7TDMI 16/32-Bit RISC Automotive MCU, 512KB Flash, 32KB RAM, 144-pin LQFP, -40ºC to 105ºC; Published: 30-Mar-2007; DatasheetVersion: Nov-2004; PackageVersion: Dec-1996; PackageReference: PGE144; Publisher: Altium Limited; PackageDescription: 144-Pin Thin Quad Flat Pack 0.5 mm Pitch; ComponentLink1Description: Manufacturer Link; ComponentLink1URL: http://www.ti.com/; ComponentLink2Description: Datasheet; ComponentLink2URL: http://focus.ti.com/lit/ds/symlink/tms470r1vf45aa.pdf
footprint PGE144_N (Thin QFP, 144-Leads, Body 20x20mm, Pitch 0.5mm, IPC Medium Density)
footprint PGE144_L (Thin QFP, 144-Leads, Body 20x20mm, Pitch 0.5mm, IPC High Density)
footprint PGE144_M (Thin QFP, 144-Leads, Body 20x20mm, Pitch 0.5mm, IPC Low Density)
part A pins: 6 GIOC[3] (io), 7 GIOC[4] (io), 8 GIOC[5] (io), 9 GIOC[6] (io), 10 GIOC[7] (io), 18 GIOD[3] (io), 19 GIOD[2] (io), 20 GIOD[1] (io), 21 GIOD[0] (io), 33 GIOA[7]/INT7 (io), 34 GIOA[6]/INT6 (io), 35 GIOA[5]/INT5 (io), 36 GIOA[4]/INT4 (io), 39 GIOA[0]/INT0 (in), 40 GIOA[1]/INT1/ECLK (io), 41 GIOA[2]/INT2 (io), 42 GIOA[3]/INT3 (io), 46 GIOB[0] (io), 58 GIOB[1] (io), 59 GIOB[2] (io), 60 GIOB[3] (io), 61 GIOB[4] (io), 77 GIOB[5] (io), 78 GIOB[6] (io), 84 GIOB[7] (io), 122 GIOC[0] (io), 143 GIOC[1] (io), 144 GIOC[2] (io)
part B pins: 22 HET[17] (io), 23 HET[16] (io), 24 HET[15] (io), 25 HET[14] (io), 26 HET[13] (io), 27 HET[12] (io), 28 HET[11] (io), 29 HET[10] (io), 47 HET[28] (io), 48 HET[29] (io), 49 HET[30] (io), 50 HET[31] (io), 51 HET[24] (io), 67 HET[22] (io), 68 HET[21] (io), 69 HET[20] (io), 70 HET[19] (io), 71 HET[18] (io), 79 HET[8] (io), 80 HET[9] (io), 100 ADIN[7] (in), 101 ADIN[6] (in), 102 ADIN[5] (in), 103 ADIN[15] (in), 104 ADIN[4] (in), 105 ADIN[3] (in), 106 ADIN[2] (in), 107 ADIN[1] (in), 108 ADIN[0] (in), 109 ADIN[11] (in), 110 ADIN[14] (in), 111 ADIN[10] (in), 112 ADIN[13] (in), 113 ADIN[9] (in), 114 ADIN[12] (in), 115 ADIN[8] (in), 123 HET[23] (io), 124 HET[25] (io), 125 HET[26] (io), 126 HET[27] (io), 129 HET[0] (io), 130 HET[1] (io), 137 HET[2] (io), 138 HET[3] (io), 139 HET[4] (io), 140 HET[5] (io), 141 HET[6] (io), 142 HET[7] (io)
part C pins: 1 ~{SPI1ENA} (io), 2 ~{SPI1SCS} (io), 3 SPI1SIMO (io), 4 SPI1SOMI (io), 5 SPI1CLK (io), 12 OSCOUT (out), 13 OSCIN (in), 15 ~{RST} (io), 32 ~{PORRST} (in), 38 TEST (in), 43 SCI2RX (io), 44 SCI2TX (io), 45 SCI2CLK (io), 56 CAN2HTX (io), 57 CAN2HRX (io), 62 SPI2CLK (io), 63 SPI2SIMO (io), 64 SPI2SOMI (io), 65 ~{SPI2ENA} (io), 66 ~{SPI2SCS} (io), 72 AWD (io), 73 PLLDIS (in), 83 CLKOUT (io), 87 CAN1HRX (io), 88 CAN1HTX (io), 89 SCI1CLK (io), 90 SCI1TX (io), 91 SCI1RX (io), 94 SPI3CLK (io), 95 SPI3SOMI (io), 96 SPI3SIMO (io), 97 ~{SPI3SCS} (io), 98 ~{SPI3ENA} (io), 99 ADEVT (io), 116 ADREFHI (in), 117 ADREFLO (in), 133 FLTP2, 134 FLTP1
part D pins: 37 ~{TRST} (in), 74 TDI (in), 75 TDO (out), 76 TCK (in), 120 TMS (in), 121 TMS2 (in)
part E pins: 11 VSS (power), 14 VCC (power), 16 VSSIO (power), 17 VCCIO (power), 30 VSS (power), 31 VCC (power), 52 VSSIO (power), 53 VCCIO (power), 54 VSS (power), 55 VCC (power), 81 VSSIO (power), 82 VCCIO (power), 85 VSS (power), 86 VCC (power), 92 VSS (power), 93 VCC (power), 118 VCCAD (power), 119 VSSAD (power), 127 VSS (power), 128 VCC (power), 131 VSS (power), 132 VCC (power), 135 VCCP (power), 136 VSS (power)

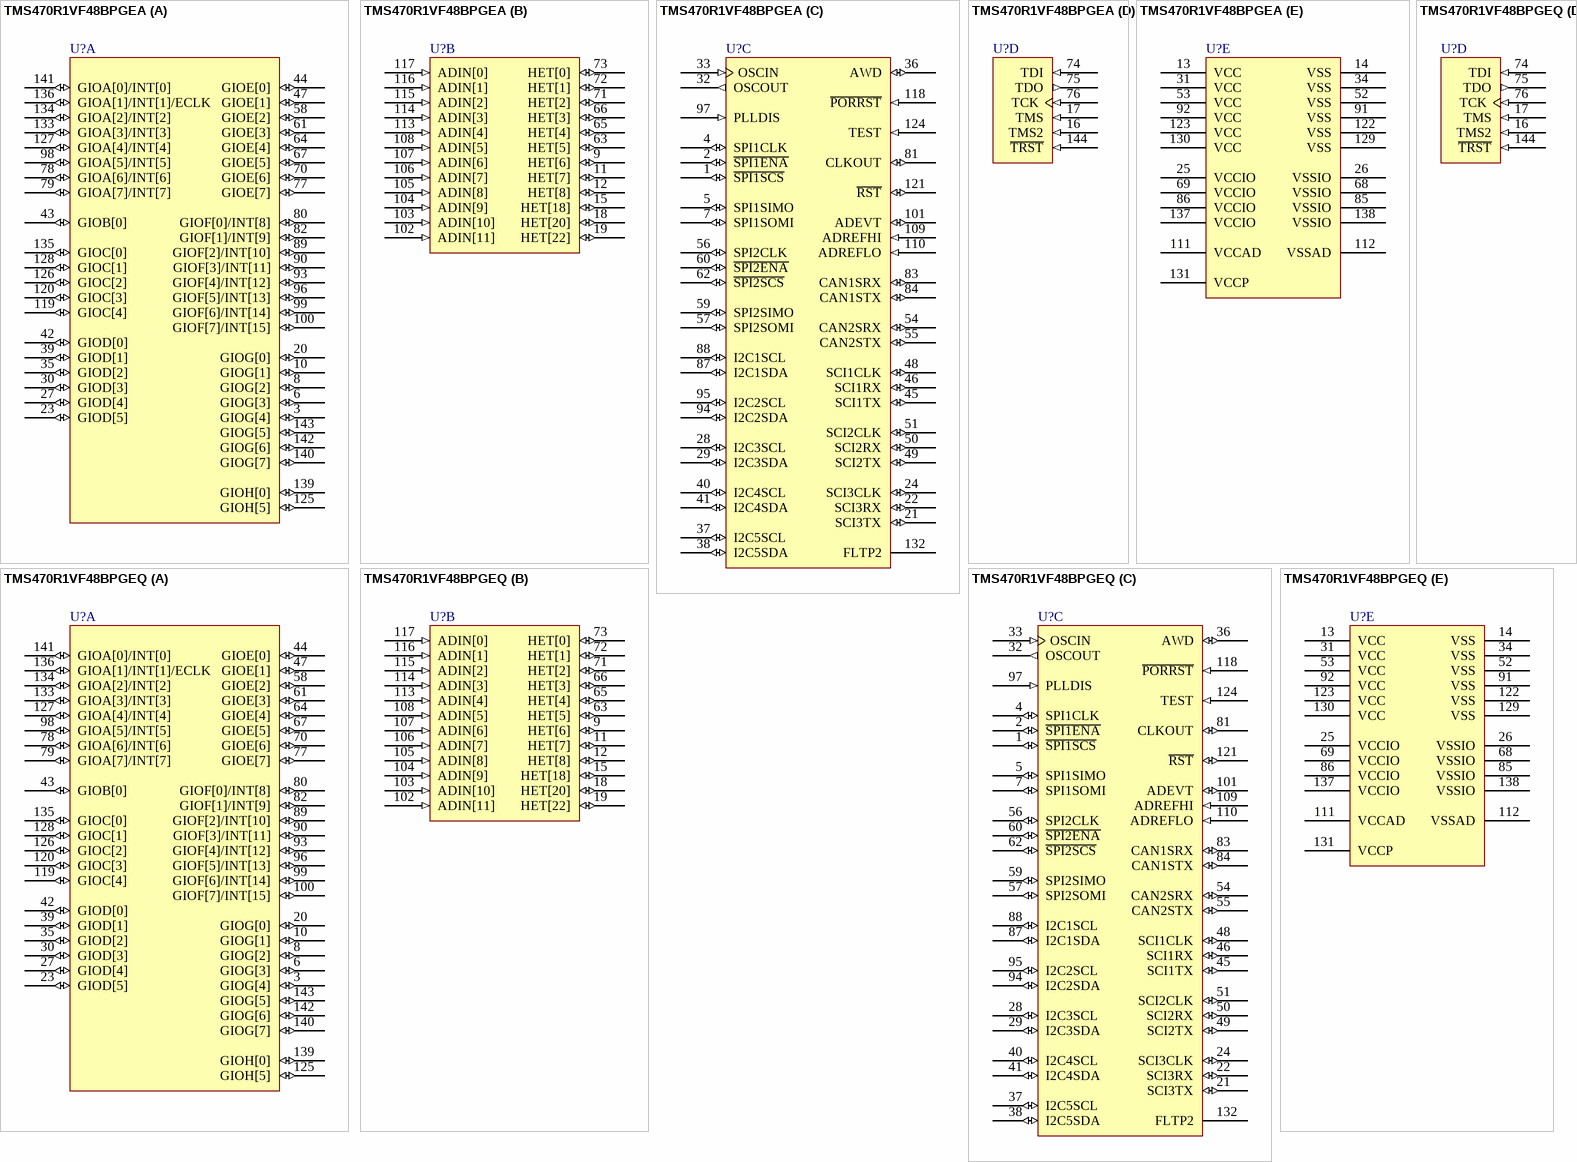
[diagram p24: symbols TMS470R1VF48BPGEA to TMS470R1VF48BPGEQ]

## TMS470R1VF48BPGEA
designator U?
ARM7TDMI 16/32-Bit RISC Automotive MCU, 1024KB Flash, 64KB RAM, 144-pin LQFP, -40ºC to 85ºC; Note: The CANSRX and CANSTX signals are only connected to pad and not to package pins.; Published: 30-Mar-2007; DatasheetVersion: Feb-2006; PackageVersion: Dec-1996; PackageReference: PGE144; Publisher: Altium Limited; PackageDescription: 144-Pin Thin Quad Flat Pack 0.5 mm Pitch; ComponentLink1Description: Manufacturer Link; ComponentLink1URL: http://www.ti.com/; ComponentLink2Description: Datasheet; ComponentLink2URL: http://focus.ti.com/lit/ds/symlink/tms470r1vf48c.pdf
footprint PGE144_N (Thin QFP, 144-Leads, Body 20x20mm, Pitch 0.5mm, IPC Medium Density)
footprint PGE144_L (Thin QFP, 144-Leads, Body 20x20mm, Pitch 0.5mm, IPC High Density)
footprint PGE144_M (Thin QFP, 144-Leads, Body 20x20mm, Pitch 0.5mm, IPC Low Density)
part A pins: 3 GIOG[4] (io), 6 GIOG[3] (io), 8 GIOG[2] (io), 10 GIOG[1] (io), 20 GIOG[0] (io), 23 GIOD[5] (io), 27 GIOD[4] (io), 30 GIOD[3] (io), 35 GIOD[2] (io), 39 GIOD[1] (io), 42 GIOD[0] (io), 43 GIOB[0] (io), 44 GIOE[0] (io), 47 GIOE[1] (io), 58 GIOE[2] (io), 61 GIOE[3] (io), 64 GIOE[4] (io), 67 GIOE[5] (io), 70 GIOE[6] (io), 77 GIOE[7] (io), 78 GIOA[6]/INT[6] (io), 79 GIOA[7]/INT[7] (io), 80 GIOF[0]/INT[8] (io), 82 GIOF[1]/INT[9] (io), 89 GIOF[2]/INT[10] (io), 90 GIOF[3]/INT[11] (io), 93 GIOF[4]/INT[12] (io), 96 GIOF[5]/INT[13] (io), 98 GIOA[5]/INT[5] (io), 99 GIOF[6]/INT[14] (io), 100 GIOF[7]/INT[15] (io), 119 GIOC[4] (io), 120 GIOC[3] (io), 125 GIOH[5] (io), 126 GIOC[2] (io), 127 GIOA[4]/INT[4] (io), 128 GIOC[1] (io), 133 GIOA[3]/INT[3] (io), 134 GIOA[2]/INT[2] (io), 135 GIOC[0] (io), 136 GIOA[1]/INT[1]/ECLK (io), 139 GIOH[0] (io), 140 GIOG[7] (io), 141 GIOA[0]/INT[0] (io), 142 GIOG[6] (io), 143 GIOG[5] (io)
part B pins: 9 HET[6] (io), 11 HET[7] (io), 12 HET[8] (io), 15 HET[18] (io), 18 HET[20] (io), 19 HET[22] (io), 63 HET[5] (io), 65 HET[4] (io), 66 HET[3] (io), 71 HET[2] (io), 72 HET[1] (io), 73 HET[0] (io), 102 ADIN[11] (in), 103 ADIN[10] (in), 104 ADIN[9] (in), 105 ADIN[8] (in), 106 ADIN[7] (in), 107 ADIN[6] (in), 108 ADIN[5] (in), 113 ADIN[4] (in), 114 ADIN[3] (in), 115 ADIN[2] (in), 116 ADIN[1] (in), 117 ADIN[0] (in)
part C pins: 1 ~{SPI1SCS} (io), 2 ~{SPI1ENA} (io), 4 SPI1CLK (io), 5 SPI1SIMO (io), 7 SPI1SOMI (io), 21 SCI3TX (io), 22 SCI3RX (io), 24 SCI3CLK (io), 28 I2C3SCL (io), 29 I2C3SDA (io), 32 OSCOUT (out), 33 OSCIN (in), 36 AWD (io), 37 I2C5SCL (io), 38 I2C5SDA (io), 40 I2C4SCL (io), 41 I2C4SDA (io), 45 SCI1TX (io), 46 SCI1RX (io), 48 SCI1CLK (io), 49 SCI2TX (io), 50 SCI2RX (io), 51 SCI2CLK (io), 54 CAN2SRX (io), 55 CAN2STX (io), 56 SPI2CLK (io), 57 SPI2SOMI (io), 59 SPI2SIMO (io), 60 ~{SPI2ENA} (io), 62 ~{SPI2SCS} (io), 81 CLKOUT (io), 83 CAN1SRX (io), 84 CAN1STX (io), 87 I2C1SDA (io), 88 I2C1SCL (io), 94 I2C2SDA (io), 95 I2C2SCL (io), 97 PLLDIS (in), 101 ADEVT (io), 109 ADREFHI (in), 110 ADREFLO (in), 118 ~{PORRST} (in), 121 ~{RST} (io), 124 TEST (in), 132 FLTP2
part D pins: 16 TMS2 (in), 17 TMS (in), 74 TDI (in), 75 TDO (out), 76 TCK (in), 144 ~{TRST} (in)
part E pins: 13 VCC (power), 14 VSS (power), 25 VCCIO (power), 26 VSSIO (power), 31 VCC (power), 34 VSS (power), 52 VSS (power), 53 VCC (power), 68 VSSIO (power), 69 VCCIO (power), 85 VSSIO (power), 86 VCCIO (power), 91 VSS (power), 92 VCC (power), 111 VCCAD (power), 112 VSSAD (power), 122 VSS (power), 123 VCC (power), 129 VSS (power), 130 VCC (power), 131 VCCP (power), 137 VCCIO (power), 138 VSSIO (power)

## TMS470R1VF48BPGEQ
designator U?
ARM7TDMI 16/32-Bit RISC Automotive MCU, 1024KB Flash, 64KB RAM, 144-pin LQFP, -40ºC to 125ºC; Note: The CANSRX and CANSTX signals are only connected to pad and not to package pins.; Published: 30-Mar-2007; DatasheetVersion: Feb-2006; PackageVersion: Dec-1996; PackageReference: PGE144; Publisher: Altium Limited; PackageDescription: 144-Pin Thin Quad Flat Pack 0.5 mm Pitch; ComponentLink1Description: Manufacturer Link; ComponentLink1URL: http://www.ti.com/; ComponentLink2Description: Datasheet; ComponentLink2URL: http://focus.ti.com/lit/ds/symlink/tms470r1vf48c.pdf
footprint PGE144_N (Thin QFP, 144-Leads, Body 20x20mm, Pitch 0.5mm, IPC Medium Density)
footprint PGE144_L (Thin QFP, 144-Leads, Body 20x20mm, Pitch 0.5mm, IPC High Density)
footprint PGE144_M (Thin QFP, 144-Leads, Body 20x20mm, Pitch 0.5mm, IPC Low Density)
part A pins: 3 GIOG[4] (io), 6 GIOG[3] (io), 8 GIOG[2] (io), 10 GIOG[1] (io), 20 GIOG[0] (io), 23 GIOD[5] (io), 27 GIOD[4] (io), 30 GIOD[3] (io), 35 GIOD[2] (io), 39 GIOD[1] (io), 42 GIOD[0] (io), 43 GIOB[0] (io), 44 GIOE[0] (io), 47 GIOE[1] (io), 58 GIOE[2] (io), 61 GIOE[3] (io), 64 GIOE[4] (io), 67 GIOE[5] (io), 70 GIOE[6] (io), 77 GIOE[7] (io), 78 GIOA[6]/INT[6] (io), 79 GIOA[7]/INT[7] (io), 80 GIOF[0]/INT[8] (io), 82 GIOF[1]/INT[9] (io), 89 GIOF[2]/INT[10] (io), 90 GIOF[3]/INT[11] (io), 93 GIOF[4]/INT[12] (io), 96 GIOF[5]/INT[13] (io), 98 GIOA[5]/INT[5] (io), 99 GIOF[6]/INT[14] (io), 100 GIOF[7]/INT[15] (io), 119 GIOC[4] (io), 120 GIOC[3] (io), 125 GIOH[5] (io), 126 GIOC[2] (io), 127 GIOA[4]/INT[4] (io), 128 GIOC[1] (io), 133 GIOA[3]/INT[3] (io), 134 GIOA[2]/INT[2] (io), 135 GIOC[0] (io), 136 GIOA[1]/INT[1]/ECLK (io), 139 GIOH[0] (io), 140 GIOG[7] (io), 141 GIOA[0]/INT[0] (io), 142 GIOG[6] (io), 143 GIOG[5] (io)
part B pins: 9 HET[6] (io), 11 HET[7] (io), 12 HET[8] (io), 15 HET[18] (io), 18 HET[20] (io), 19 HET[22] (io), 63 HET[5] (io), 65 HET[4] (io), 66 HET[3] (io), 71 HET[2] (io), 72 HET[1] (io), 73 HET[0] (io), 102 ADIN[11] (in), 103 ADIN[10] (in), 104 ADIN[9] (in), 105 ADIN[8] (in), 106 ADIN[7] (in), 107 ADIN[6] (in), 108 ADIN[5] (in), 113 ADIN[4] (in), 114 ADIN[3] (in), 115 ADIN[2] (in), 116 ADIN[1] (in), 117 ADIN[0] (in)
part C pins: 1 ~{SPI1SCS} (io), 2 ~{SPI1ENA} (io), 4 SPI1CLK (io), 5 SPI1SIMO (io), 7 SPI1SOMI (io), 21 SCI3TX (io), 22 SCI3RX (io), 24 SCI3CLK (io), 28 I2C3SCL (io), 29 I2C3SDA (io), 32 OSCOUT (out), 33 OSCIN (in), 36 AWD (io), 37 I2C5SCL (io), 38 I2C5SDA (io), 40 I2C4SCL (io), 41 I2C4SDA (io), 45 SCI1TX (io), 46 SCI1RX (io), 48 SCI1CLK (io), 49 SCI2TX (io), 50 SCI2RX (io), 51 SCI2CLK (io), 54 CAN2SRX (io), 55 CAN2STX (io), 56 SPI2CLK (io), 57 SPI2SOMI (io), 59 SPI2SIMO (io), 60 ~{SPI2ENA} (io), 62 ~{SPI2SCS} (io), 81 CLKOUT (io), 83 CAN1SRX (io), 84 CAN1STX (io), 87 I2C1SDA (io), 88 I2C1SCL (io), 94 I2C2SDA (io), 95 I2C2SCL (io), 97 PLLDIS (in), 101 ADEVT (io), 109 ADREFHI (in), 110 ADREFLO (in), 118 ~{PORRST} (in), 121 ~{RST} (io), 124 TEST (in), 132 FLTP2
part D pins: 16 TMS2 (in), 17 TMS (in), 74 TDI (in), 75 TDO (out), 76 TCK (in), 144 ~{TRST} (in)
part E pins: 13 VCC (power), 14 VSS (power), 25 VCCIO (power), 26 VSSIO (power), 31 VCC (power), 34 VSS (power), 52 VSS (power), 53 VCC (power), 68 VSSIO (power), 69 VCCIO (power), 85 VSSIO (power), 86 VCCIO (power), 91 VSS (power), 92 VCC (power), 111 VCCAD (power), 112 VSSAD (power), 122 VSS (power), 123 VCC (power), 129 VSS (power), 130 VCC (power), 131 VCCP (power), 137 VCCIO (power), 138 VSSIO (power)

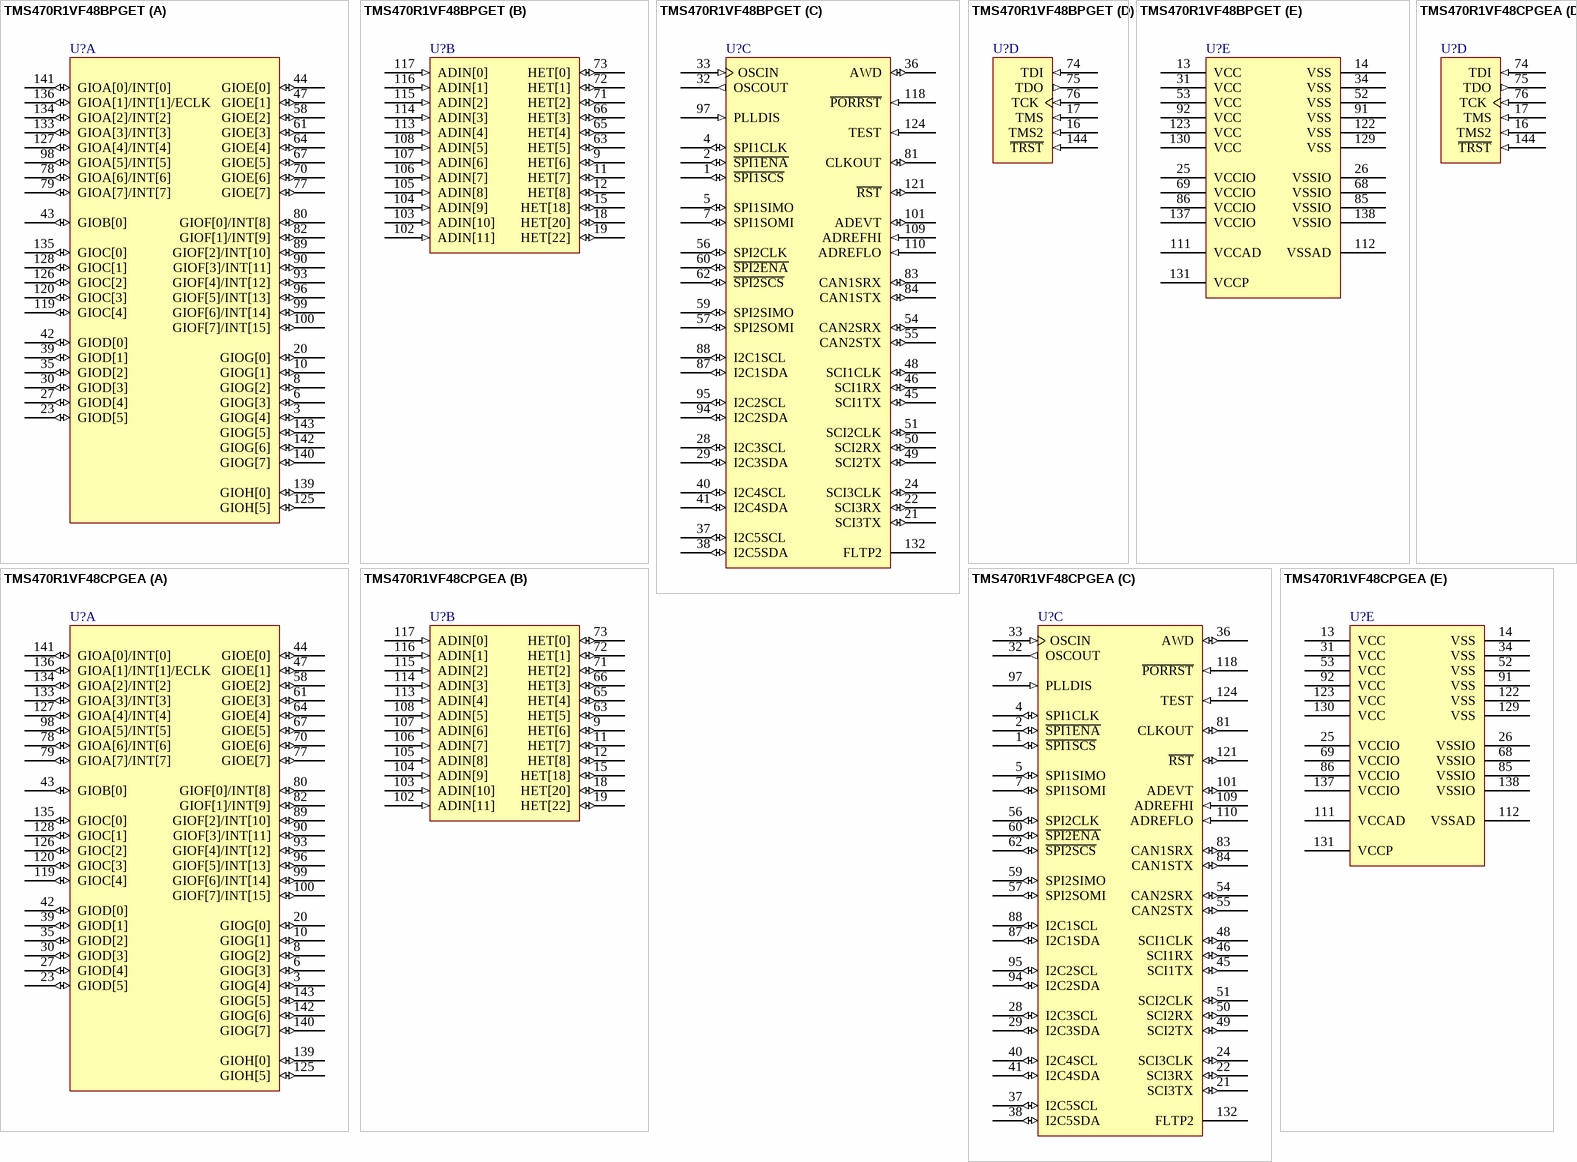
[diagram p25: symbols TMS470R1VF48BPGET to TMS470R1VF48CPGEA]

## TMS470R1VF48BPGET
designator U?
ARM7TDMI 16/32-Bit RISC Automotive MCU, 1024KB Flash, 64KB RAM, 144-pin LQFP, -40ºC to 105ºC; Note: The CANSRX and CANSTX signals are only connected to pad and not to package pins.; Published: 30-Mar-2007; DatasheetVersion: Feb-2006; PackageVersion: Dec-1996; PackageReference: PGE144; Publisher: Altium Limited; PackageDescription: 144-Pin Thin Quad Flat Pack 0.5 mm Pitch; ComponentLink1Description: Manufacturer Link; ComponentLink1URL: http://www.ti.com/; ComponentLink2Description: Datasheet; ComponentLink2URL: http://focus.ti.com/lit/ds/symlink/tms470r1vf48c.pdf
footprint PGE144_N (Thin QFP, 144-Leads, Body 20x20mm, Pitch 0.5mm, IPC Medium Density)
footprint PGE144_L (Thin QFP, 144-Leads, Body 20x20mm, Pitch 0.5mm, IPC High Density)
footprint PGE144_M (Thin QFP, 144-Leads, Body 20x20mm, Pitch 0.5mm, IPC Low Density)
part A pins: 3 GIOG[4] (io), 6 GIOG[3] (io), 8 GIOG[2] (io), 10 GIOG[1] (io), 20 GIOG[0] (io), 23 GIOD[5] (io), 27 GIOD[4] (io), 30 GIOD[3] (io), 35 GIOD[2] (io), 39 GIOD[1] (io), 42 GIOD[0] (io), 43 GIOB[0] (io), 44 GIOE[0] (io), 47 GIOE[1] (io), 58 GIOE[2] (io), 61 GIOE[3] (io), 64 GIOE[4] (io), 67 GIOE[5] (io), 70 GIOE[6] (io), 77 GIOE[7] (io), 78 GIOA[6]/INT[6] (io), 79 GIOA[7]/INT[7] (io), 80 GIOF[0]/INT[8] (io), 82 GIOF[1]/INT[9] (io), 89 GIOF[2]/INT[10] (io), 90 GIOF[3]/INT[11] (io), 93 GIOF[4]/INT[12] (io), 96 GIOF[5]/INT[13] (io), 98 GIOA[5]/INT[5] (io), 99 GIOF[6]/INT[14] (io), 100 GIOF[7]/INT[15] (io), 119 GIOC[4] (io), 120 GIOC[3] (io), 125 GIOH[5] (io), 126 GIOC[2] (io), 127 GIOA[4]/INT[4] (io), 128 GIOC[1] (io), 133 GIOA[3]/INT[3] (io), 134 GIOA[2]/INT[2] (io), 135 GIOC[0] (io), 136 GIOA[1]/INT[1]/ECLK (io), 139 GIOH[0] (io), 140 GIOG[7] (io), 141 GIOA[0]/INT[0] (io), 142 GIOG[6] (io), 143 GIOG[5] (io)
part B pins: 9 HET[6] (io), 11 HET[7] (io), 12 HET[8] (io), 15 HET[18] (io), 18 HET[20] (io), 19 HET[22] (io), 63 HET[5] (io), 65 HET[4] (io), 66 HET[3] (io), 71 HET[2] (io), 72 HET[1] (io), 73 HET[0] (io), 102 ADIN[11] (in), 103 ADIN[10] (in), 104 ADIN[9] (in), 105 ADIN[8] (in), 106 ADIN[7] (in), 107 ADIN[6] (in), 108 ADIN[5] (in), 113 ADIN[4] (in), 114 ADIN[3] (in), 115 ADIN[2] (in), 116 ADIN[1] (in), 117 ADIN[0] (in)
part C pins: 1 ~{SPI1SCS} (io), 2 ~{SPI1ENA} (io), 4 SPI1CLK (io), 5 SPI1SIMO (io), 7 SPI1SOMI (io), 21 SCI3TX (io), 22 SCI3RX (io), 24 SCI3CLK (io), 28 I2C3SCL (io), 29 I2C3SDA (io), 32 OSCOUT (out), 33 OSCIN (in), 36 AWD (io), 37 I2C5SCL (io), 38 I2C5SDA (io), 40 I2C4SCL (io), 41 I2C4SDA (io), 45 SCI1TX (io), 46 SCI1RX (io), 48 SCI1CLK (io), 49 SCI2TX (io), 50 SCI2RX (io), 51 SCI2CLK (io), 54 CAN2SRX (io), 55 CAN2STX (io), 56 SPI2CLK (io), 57 SPI2SOMI (io), 59 SPI2SIMO (io), 60 ~{SPI2ENA} (io), 62 ~{SPI2SCS} (io), 81 CLKOUT (io), 83 CAN1SRX (io), 84 CAN1STX (io), 87 I2C1SDA (io), 88 I2C1SCL (io), 94 I2C2SDA (io), 95 I2C2SCL (io), 97 PLLDIS (in), 101 ADEVT (io), 109 ADREFHI (in), 110 ADREFLO (in), 118 ~{PORRST} (in), 121 ~{RST} (io), 124 TEST (in), 132 FLTP2
part D pins: 16 TMS2 (in), 17 TMS (in), 74 TDI (in), 75 TDO (out), 76 TCK (in), 144 ~{TRST} (in)
part E pins: 13 VCC (power), 14 VSS (power), 25 VCCIO (power), 26 VSSIO (power), 31 VCC (power), 34 VSS (power), 52 VSS (power), 53 VCC (power), 68 VSSIO (power), 69 VCCIO (power), 85 VSSIO (power), 86 VCCIO (power), 91 VSS (power), 92 VCC (power), 111 VCCAD (power), 112 VSSAD (power), 122 VSS (power), 123 VCC (power), 129 VSS (power), 130 VCC (power), 131 VCCP (power), 137 VCCIO (power), 138 VSSIO (power)

## TMS470R1VF48CPGEA
designator U?
ARM7TDMI 16/32-Bit RISC Automotive MCU, 1024KB Flash, 64KB RAM, 144-pin LQFP, -40ºC to 85ºC; Note: The CANSRX and CANSTX signals are only connected to pad and not to package pins.; Published: 30-Mar-2007; DatasheetVersion: Feb-2006; PackageVersion: Dec-1996; PackageReference: PGE144; Publisher: Altium Limited; PackageDescription: 144-Pin Thin Quad Flat Pack 0.5 mm Pitch; ComponentLink1Description: Manufacturer Link; ComponentLink1URL: http://www.ti.com/; ComponentLink2Description: Datasheet; ComponentLink2URL: http://focus.ti.com/lit/ds/symlink/tms470r1vf48c.pdf
footprint PGE144_N (Thin QFP, 144-Leads, Body 20x20mm, Pitch 0.5mm, IPC Medium Density)
footprint PGE144_L (Thin QFP, 144-Leads, Body 20x20mm, Pitch 0.5mm, IPC High Density)
footprint PGE144_M (Thin QFP, 144-Leads, Body 20x20mm, Pitch 0.5mm, IPC Low Density)
part A pins: 3 GIOG[4] (io), 6 GIOG[3] (io), 8 GIOG[2] (io), 10 GIOG[1] (io), 20 GIOG[0] (io), 23 GIOD[5] (io), 27 GIOD[4] (io), 30 GIOD[3] (io), 35 GIOD[2] (io), 39 GIOD[1] (io), 42 GIOD[0] (io), 43 GIOB[0] (io), 44 GIOE[0] (io), 47 GIOE[1] (io), 58 GIOE[2] (io), 61 GIOE[3] (io), 64 GIOE[4] (io), 67 GIOE[5] (io), 70 GIOE[6] (io), 77 GIOE[7] (io), 78 GIOA[6]/INT[6] (io), 79 GIOA[7]/INT[7] (io), 80 GIOF[0]/INT[8] (io), 82 GIOF[1]/INT[9] (io), 89 GIOF[2]/INT[10] (io), 90 GIOF[3]/INT[11] (io), 93 GIOF[4]/INT[12] (io), 96 GIOF[5]/INT[13] (io), 98 GIOA[5]/INT[5] (io), 99 GIOF[6]/INT[14] (io), 100 GIOF[7]/INT[15] (io), 119 GIOC[4] (io), 120 GIOC[3] (io), 125 GIOH[5] (io), 126 GIOC[2] (io), 127 GIOA[4]/INT[4] (io), 128 GIOC[1] (io), 133 GIOA[3]/INT[3] (io), 134 GIOA[2]/INT[2] (io), 135 GIOC[0] (io), 136 GIOA[1]/INT[1]/ECLK (io), 139 GIOH[0] (io), 140 GIOG[7] (io), 141 GIOA[0]/INT[0] (io), 142 GIOG[6] (io), 143 GIOG[5] (io)
part B pins: 9 HET[6] (io), 11 HET[7] (io), 12 HET[8] (io), 15 HET[18] (io), 18 HET[20] (io), 19 HET[22] (io), 63 HET[5] (io), 65 HET[4] (io), 66 HET[3] (io), 71 HET[2] (io), 72 HET[1] (io), 73 HET[0] (io), 102 ADIN[11] (in), 103 ADIN[10] (in), 104 ADIN[9] (in), 105 ADIN[8] (in), 106 ADIN[7] (in), 107 ADIN[6] (in), 108 ADIN[5] (in), 113 ADIN[4] (in), 114 ADIN[3] (in), 115 ADIN[2] (in), 116 ADIN[1] (in), 117 ADIN[0] (in)
part C pins: 1 ~{SPI1SCS} (io), 2 ~{SPI1ENA} (io), 4 SPI1CLK (io), 5 SPI1SIMO (io), 7 SPI1SOMI (io), 21 SCI3TX (io), 22 SCI3RX (io), 24 SCI3CLK (io), 28 I2C3SCL (io), 29 I2C3SDA (io), 32 OSCOUT (out), 33 OSCIN (in), 36 AWD (io), 37 I2C5SCL (io), 38 I2C5SDA (io), 40 I2C4SCL (io), 41 I2C4SDA (io), 45 SCI1TX (io), 46 SCI1RX (io), 48 SCI1CLK (io), 49 SCI2TX (io), 50 SCI2RX (io), 51 SCI2CLK (io), 54 CAN2SRX (io), 55 CAN2STX (io), 56 SPI2CLK (io), 57 SPI2SOMI (io), 59 SPI2SIMO (io), 60 ~{SPI2ENA} (io), 62 ~{SPI2SCS} (io), 81 CLKOUT (io), 83 CAN1SRX (io), 84 CAN1STX (io), 87 I2C1SDA (io), 88 I2C1SCL (io), 94 I2C2SDA (io), 95 I2C2SCL (io), 97 PLLDIS (in), 101 ADEVT (io), 109 ADREFHI (in), 110 ADREFLO (in), 118 ~{PORRST} (in), 121 ~{RST} (io), 124 TEST (in), 132 FLTP2
part D pins: 16 TMS2 (in), 17 TMS (in), 74 TDI (in), 75 TDO (out), 76 TCK (in), 144 ~{TRST} (in)
part E pins: 13 VCC (power), 14 VSS (power), 25 VCCIO (power), 26 VSSIO (power), 31 VCC (power), 34 VSS (power), 52 VSS (power), 53 VCC (power), 68 VSSIO (power), 69 VCCIO (power), 85 VSSIO (power), 86 VCCIO (power), 91 VSS (power), 92 VCC (power), 111 VCCAD (power), 112 VSSAD (power), 122 VSS (power), 123 VCC (power), 129 VSS (power), 130 VCC (power), 131 VCCP (power), 137 VCCIO (power), 138 VSSIO (power)

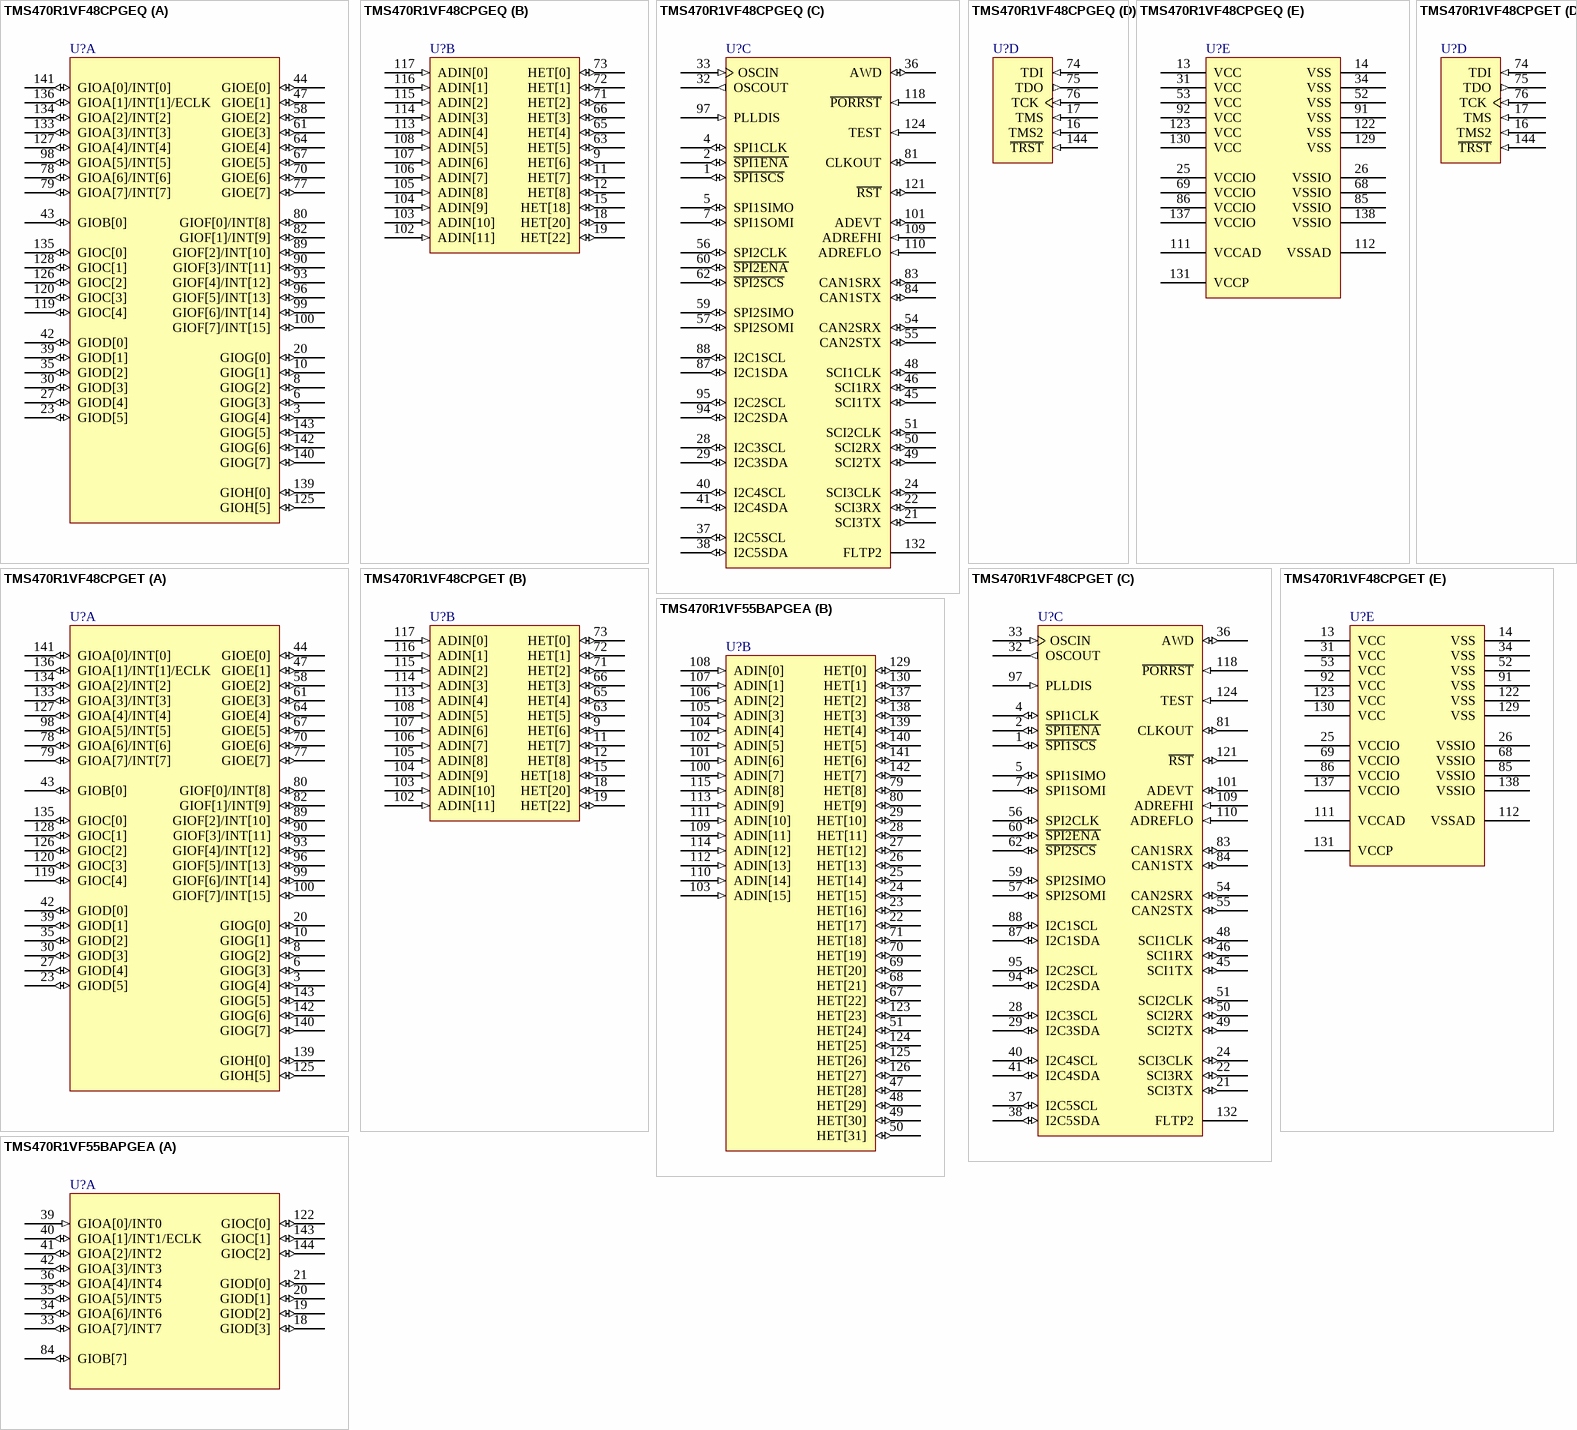
[diagram p26: symbols TMS470R1VF48CPGEQ to TMS470R1VF55BAPGEA]

## TMS470R1VF48CPGEQ
designator U?
ARM7TDMI 16/32-Bit RISC Automotive MCU, 1024KB Flash, 64KB RAM, 144-pin LQFP, -40ºC to 125ºC; Note: The CANSRX and CANSTX signals are only connected to pad and not to package pins.; Published: 30-Mar-2007; DatasheetVersion: Feb-2006; PackageVersion: Dec-1996; PackageReference: PGE144; Publisher: Altium Limited; PackageDescription: 144-Pin Thin Quad Flat Pack 0.5 mm Pitch; ComponentLink1Description: Manufacturer Link; ComponentLink1URL: http://www.ti.com/; ComponentLink2Description: Datasheet; ComponentLink2URL: http://focus.ti.com/lit/ds/symlink/tms470r1vf48c.pdf
footprint PGE144_N (Thin QFP, 144-Leads, Body 20x20mm, Pitch 0.5mm, IPC Medium Density)
footprint PGE144_L (Thin QFP, 144-Leads, Body 20x20mm, Pitch 0.5mm, IPC High Density)
footprint PGE144_M (Thin QFP, 144-Leads, Body 20x20mm, Pitch 0.5mm, IPC Low Density)
part A pins: 3 GIOG[4] (io), 6 GIOG[3] (io), 8 GIOG[2] (io), 10 GIOG[1] (io), 20 GIOG[0] (io), 23 GIOD[5] (io), 27 GIOD[4] (io), 30 GIOD[3] (io), 35 GIOD[2] (io), 39 GIOD[1] (io), 42 GIOD[0] (io), 43 GIOB[0] (io), 44 GIOE[0] (io), 47 GIOE[1] (io), 58 GIOE[2] (io), 61 GIOE[3] (io), 64 GIOE[4] (io), 67 GIOE[5] (io), 70 GIOE[6] (io), 77 GIOE[7] (io), 78 GIOA[6]/INT[6] (io), 79 GIOA[7]/INT[7] (io), 80 GIOF[0]/INT[8] (io), 82 GIOF[1]/INT[9] (io), 89 GIOF[2]/INT[10] (io), 90 GIOF[3]/INT[11] (io), 93 GIOF[4]/INT[12] (io), 96 GIOF[5]/INT[13] (io), 98 GIOA[5]/INT[5] (io), 99 GIOF[6]/INT[14] (io), 100 GIOF[7]/INT[15] (io), 119 GIOC[4] (io), 120 GIOC[3] (io), 125 GIOH[5] (io), 126 GIOC[2] (io), 127 GIOA[4]/INT[4] (io), 128 GIOC[1] (io), 133 GIOA[3]/INT[3] (io), 134 GIOA[2]/INT[2] (io), 135 GIOC[0] (io), 136 GIOA[1]/INT[1]/ECLK (io), 139 GIOH[0] (io), 140 GIOG[7] (io), 141 GIOA[0]/INT[0] (io), 142 GIOG[6] (io), 143 GIOG[5] (io)
part B pins: 9 HET[6] (io), 11 HET[7] (io), 12 HET[8] (io), 15 HET[18] (io), 18 HET[20] (io), 19 HET[22] (io), 63 HET[5] (io), 65 HET[4] (io), 66 HET[3] (io), 71 HET[2] (io), 72 HET[1] (io), 73 HET[0] (io), 102 ADIN[11] (in), 103 ADIN[10] (in), 104 ADIN[9] (in), 105 ADIN[8] (in), 106 ADIN[7] (in), 107 ADIN[6] (in), 108 ADIN[5] (in), 113 ADIN[4] (in), 114 ADIN[3] (in), 115 ADIN[2] (in), 116 ADIN[1] (in), 117 ADIN[0] (in)
part C pins: 1 ~{SPI1SCS} (io), 2 ~{SPI1ENA} (io), 4 SPI1CLK (io), 5 SPI1SIMO (io), 7 SPI1SOMI (io), 21 SCI3TX (io), 22 SCI3RX (io), 24 SCI3CLK (io), 28 I2C3SCL (io), 29 I2C3SDA (io), 32 OSCOUT (out), 33 OSCIN (in), 36 AWD (io), 37 I2C5SCL (io), 38 I2C5SDA (io), 40 I2C4SCL (io), 41 I2C4SDA (io), 45 SCI1TX (io), 46 SCI1RX (io), 48 SCI1CLK (io), 49 SCI2TX (io), 50 SCI2RX (io), 51 SCI2CLK (io), 54 CAN2SRX (io), 55 CAN2STX (io), 56 SPI2CLK (io), 57 SPI2SOMI (io), 59 SPI2SIMO (io), 60 ~{SPI2ENA} (io), 62 ~{SPI2SCS} (io), 81 CLKOUT (io), 83 CAN1SRX (io), 84 CAN1STX (io), 87 I2C1SDA (io), 88 I2C1SCL (io), 94 I2C2SDA (io), 95 I2C2SCL (io), 97 PLLDIS (in), 101 ADEVT (io), 109 ADREFHI (in), 110 ADREFLO (in), 118 ~{PORRST} (in), 121 ~{RST} (io), 124 TEST (in), 132 FLTP2
part D pins: 16 TMS2 (in), 17 TMS (in), 74 TDI (in), 75 TDO (out), 76 TCK (in), 144 ~{TRST} (in)
part E pins: 13 VCC (power), 14 VSS (power), 25 VCCIO (power), 26 VSSIO (power), 31 VCC (power), 34 VSS (power), 52 VSS (power), 53 VCC (power), 68 VSSIO (power), 69 VCCIO (power), 85 VSSIO (power), 86 VCCIO (power), 91 VSS (power), 92 VCC (power), 111 VCCAD (power), 112 VSSAD (power), 122 VSS (power), 123 VCC (power), 129 VSS (power), 130 VCC (power), 131 VCCP (power), 137 VCCIO (power), 138 VSSIO (power)

## TMS470R1VF48CPGET
designator U?
ARM7TDMI 16/32-Bit RISC Automotive MCU, 1024KB Flash, 64KB RAM, 144-pin LQFP, -40ºC to 105ºC; Note: The CANSRX and CANSTX signals are only connected to pad and not to package pins.; Published: 30-Mar-2007; DatasheetVersion: Feb-2006; PackageVersion: Dec-1996; PackageReference: PGE144; Publisher: Altium Limited; PackageDescription: 144-Pin Thin Quad Flat Pack 0.5 mm Pitch; ComponentLink1Description: Manufacturer Link; ComponentLink1URL: http://www.ti.com/; ComponentLink2Description: Datasheet; ComponentLink2URL: http://focus.ti.com/lit/ds/symlink/tms470r1vf48c.pdf
footprint PGE144_N (Thin QFP, 144-Leads, Body 20x20mm, Pitch 0.5mm, IPC Medium Density)
footprint PGE144_L (Thin QFP, 144-Leads, Body 20x20mm, Pitch 0.5mm, IPC High Density)
footprint PGE144_M (Thin QFP, 144-Leads, Body 20x20mm, Pitch 0.5mm, IPC Low Density)
part A pins: 3 GIOG[4] (io), 6 GIOG[3] (io), 8 GIOG[2] (io), 10 GIOG[1] (io), 20 GIOG[0] (io), 23 GIOD[5] (io), 27 GIOD[4] (io), 30 GIOD[3] (io), 35 GIOD[2] (io), 39 GIOD[1] (io), 42 GIOD[0] (io), 43 GIOB[0] (io), 44 GIOE[0] (io), 47 GIOE[1] (io), 58 GIOE[2] (io), 61 GIOE[3] (io), 64 GIOE[4] (io), 67 GIOE[5] (io), 70 GIOE[6] (io), 77 GIOE[7] (io), 78 GIOA[6]/INT[6] (io), 79 GIOA[7]/INT[7] (io), 80 GIOF[0]/INT[8] (io), 82 GIOF[1]/INT[9] (io), 89 GIOF[2]/INT[10] (io), 90 GIOF[3]/INT[11] (io), 93 GIOF[4]/INT[12] (io), 96 GIOF[5]/INT[13] (io), 98 GIOA[5]/INT[5] (io), 99 GIOF[6]/INT[14] (io), 100 GIOF[7]/INT[15] (io), 119 GIOC[4] (io), 120 GIOC[3] (io), 125 GIOH[5] (io), 126 GIOC[2] (io), 127 GIOA[4]/INT[4] (io), 128 GIOC[1] (io), 133 GIOA[3]/INT[3] (io), 134 GIOA[2]/INT[2] (io), 135 GIOC[0] (io), 136 GIOA[1]/INT[1]/ECLK (io), 139 GIOH[0] (io), 140 GIOG[7] (io), 141 GIOA[0]/INT[0] (io), 142 GIOG[6] (io), 143 GIOG[5] (io)
part B pins: 9 HET[6] (io), 11 HET[7] (io), 12 HET[8] (io), 15 HET[18] (io), 18 HET[20] (io), 19 HET[22] (io), 63 HET[5] (io), 65 HET[4] (io), 66 HET[3] (io), 71 HET[2] (io), 72 HET[1] (io), 73 HET[0] (io), 102 ADIN[11] (in), 103 ADIN[10] (in), 104 ADIN[9] (in), 105 ADIN[8] (in), 106 ADIN[7] (in), 107 ADIN[6] (in), 108 ADIN[5] (in), 113 ADIN[4] (in), 114 ADIN[3] (in), 115 ADIN[2] (in), 116 ADIN[1] (in), 117 ADIN[0] (in)
part C pins: 1 ~{SPI1SCS} (io), 2 ~{SPI1ENA} (io), 4 SPI1CLK (io), 5 SPI1SIMO (io), 7 SPI1SOMI (io), 21 SCI3TX (io), 22 SCI3RX (io), 24 SCI3CLK (io), 28 I2C3SCL (io), 29 I2C3SDA (io), 32 OSCOUT (out), 33 OSCIN (in), 36 AWD (io), 37 I2C5SCL (io), 38 I2C5SDA (io), 40 I2C4SCL (io), 41 I2C4SDA (io), 45 SCI1TX (io), 46 SCI1RX (io), 48 SCI1CLK (io), 49 SCI2TX (io), 50 SCI2RX (io), 51 SCI2CLK (io), 54 CAN2SRX (io), 55 CAN2STX (io), 56 SPI2CLK (io), 57 SPI2SOMI (io), 59 SPI2SIMO (io), 60 ~{SPI2ENA} (io), 62 ~{SPI2SCS} (io), 81 CLKOUT (io), 83 CAN1SRX (io), 84 CAN1STX (io), 87 I2C1SDA (io), 88 I2C1SCL (io), 94 I2C2SDA (io), 95 I2C2SCL (io), 97 PLLDIS (in), 101 ADEVT (io), 109 ADREFHI (in), 110 ADREFLO (in), 118 ~{PORRST} (in), 121 ~{RST} (io), 124 TEST (in), 132 FLTP2
part D pins: 16 TMS2 (in), 17 TMS (in), 74 TDI (in), 75 TDO (out), 76 TCK (in), 144 ~{TRST} (in)
part E pins: 13 VCC (power), 14 VSS (power), 25 VCCIO (power), 26 VSSIO (power), 31 VCC (power), 34 VSS (power), 52 VSS (power), 53 VCC (power), 68 VSSIO (power), 69 VCCIO (power), 85 VSSIO (power), 86 VCCIO (power), 91 VSS (power), 92 VCC (power), 111 VCCAD (power), 112 VSSAD (power), 122 VSS (power), 123 VCC (power), 129 VSS (power), 130 VCC (power), 131 VCCP (power), 137 VCCIO (power), 138 VSSIO (power)

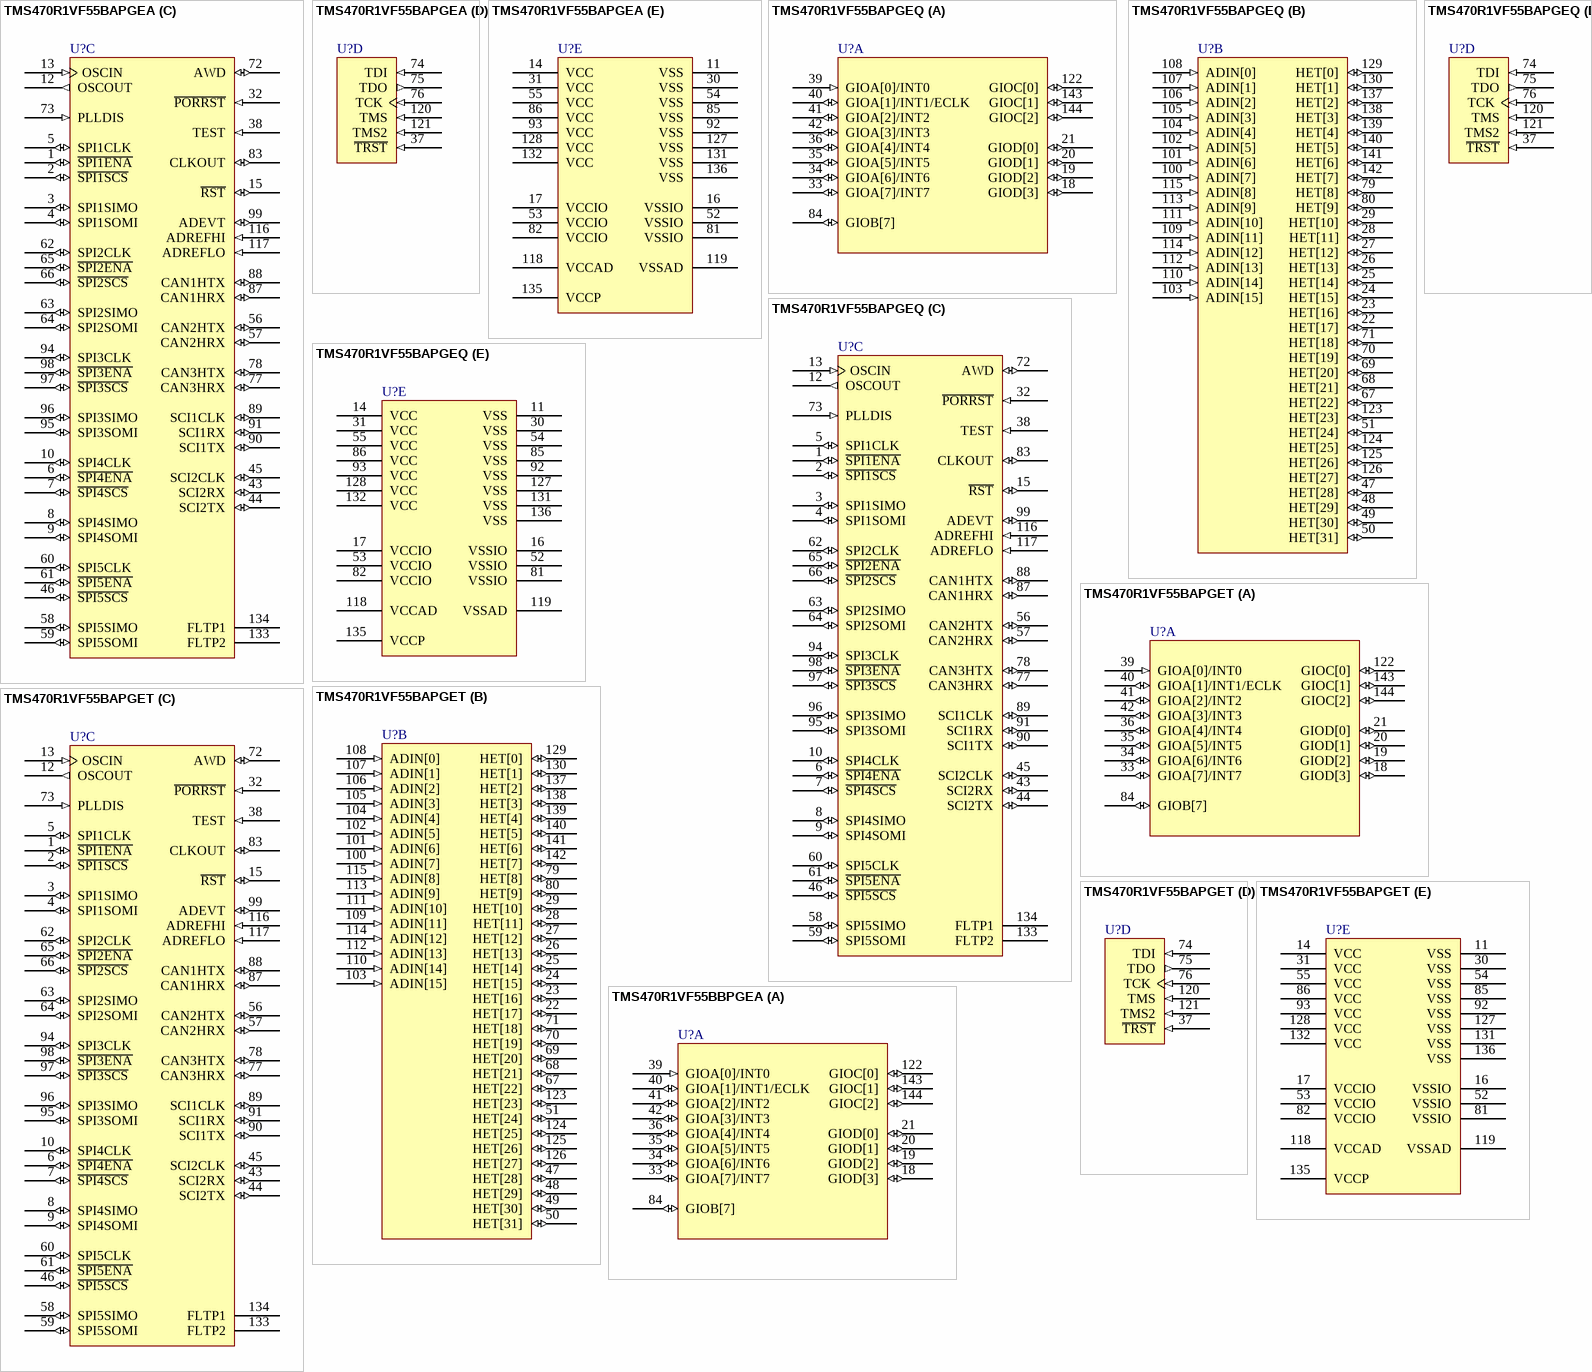
[diagram p27: symbols TMS470R1VF55BAPGEA to TMS470R1VF55BBPGEA]